# Altium integrated library Actel IGLOO.IntLib: 429 symbols (part 39 of 47)
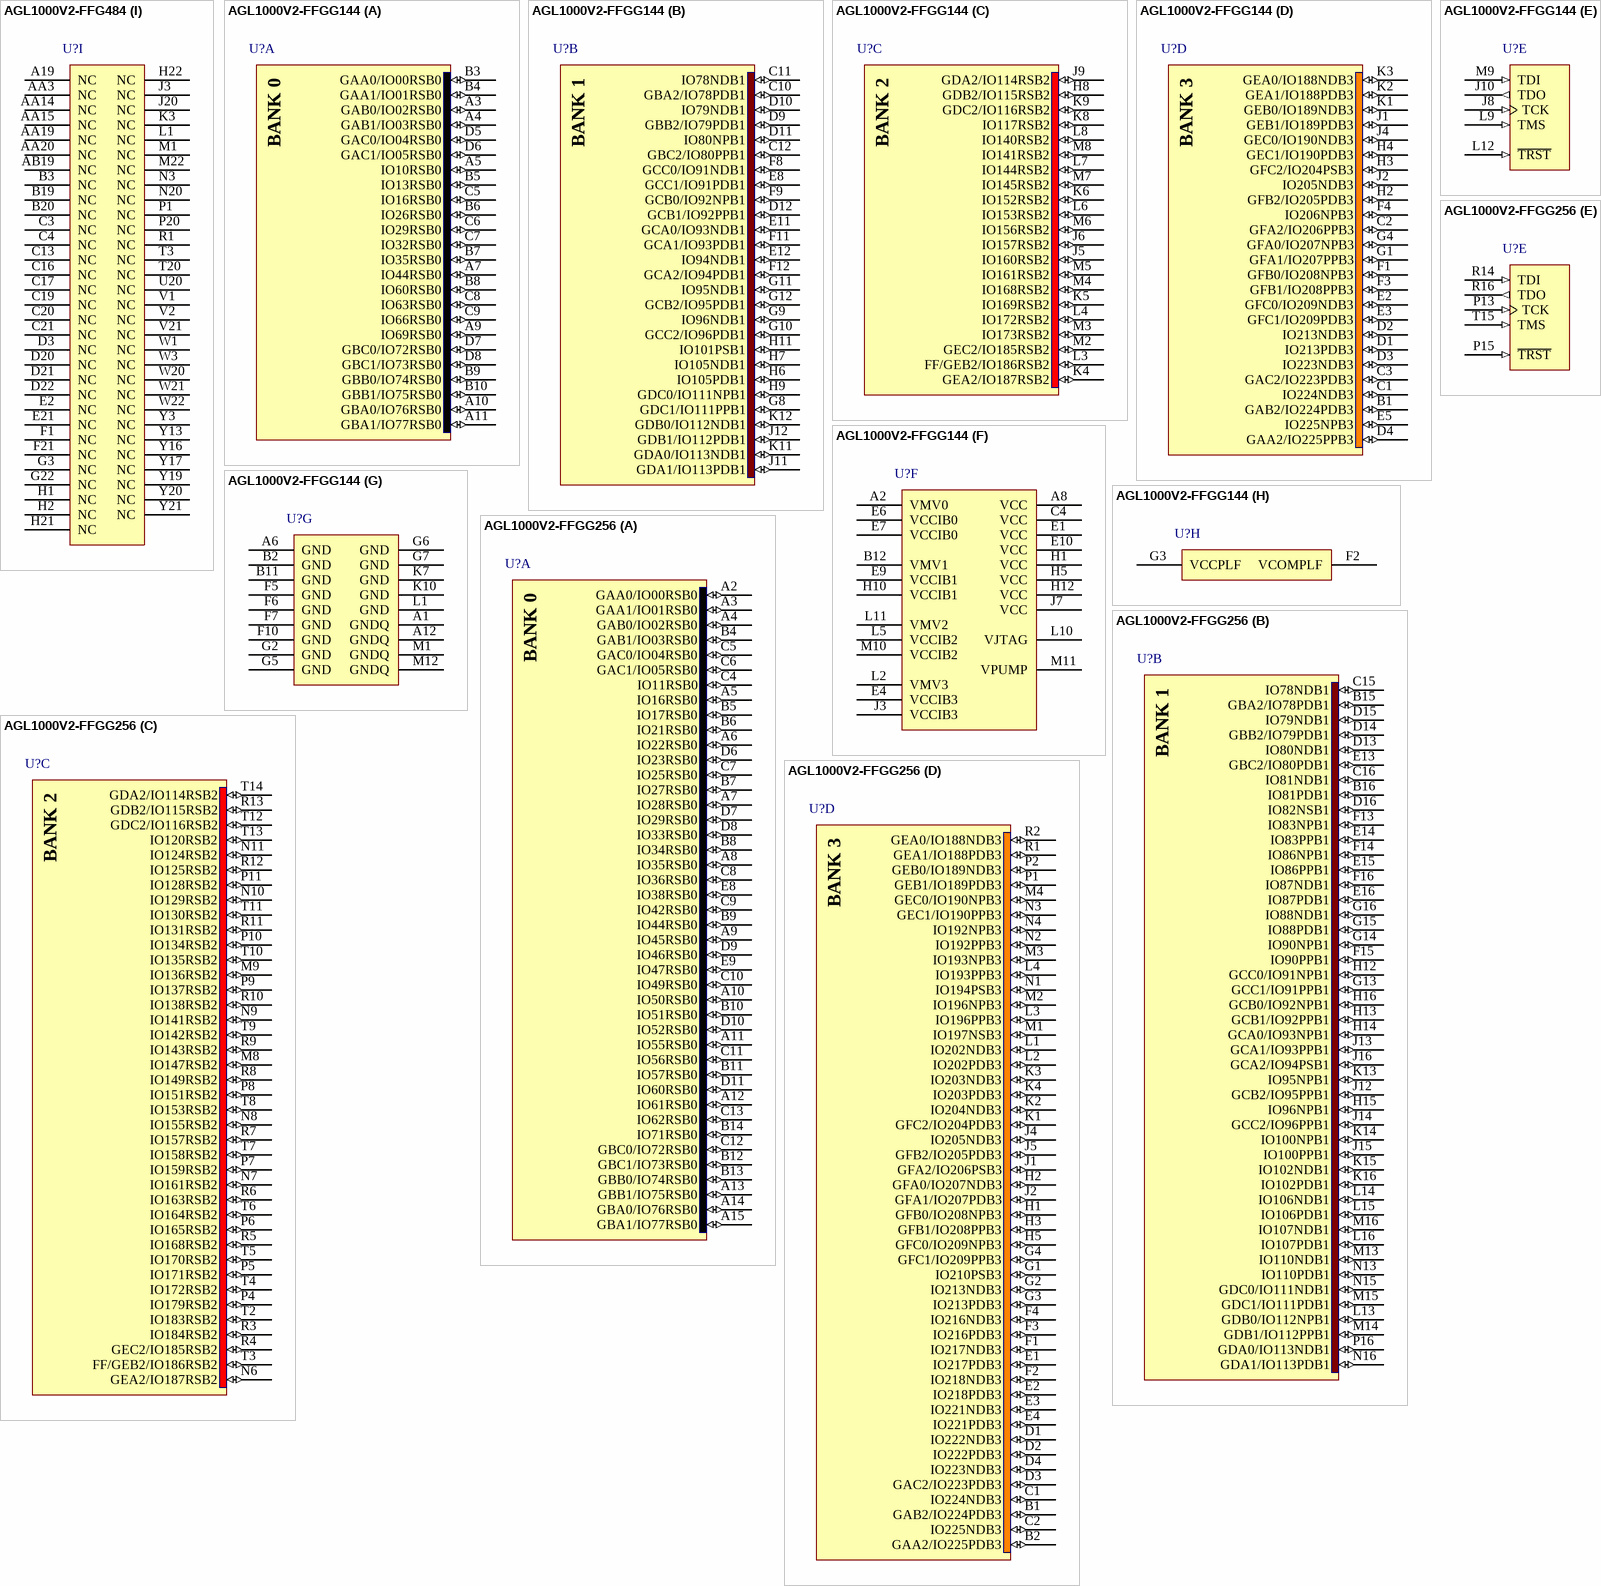
[diagram p278: symbols AGL1000V2-FFG484 to AGL1000V2-FFGG256]

## AGL1000V2-FFG484
designator U?
IGLOO Low-Power Flash 1.2/1.5V FPGA with Flash*Freeze, 300 User IOs, 1M System Gates, 144Kbits RAM, 1Kbit Flash ROM, 1 PLL, 484-Pin FBGA, F Speed Grade, Commercial Grade; ComponentAvailability: F speed grade removed in ver1.5, Apr-2009 datasheet.; Published: 14-Mar-2008; DatasheetVersion: v1.2, Feb-2008; PackageVersion: ver11.2, Nov-2009; PackageReference: FG484; Publisher: Altium Limited; PackageDescription: 484-Ball Fine Pitch Plastic Ball Grid Array (FG484) - Fully Populated; Code_JEDEC: MS-034-AAJ-1; Code_IPC: BGA100P22X22-484; ComponentLink1Description: IGLOO Datasheet; ComponentLink1URL: http://www.actel.com/documents/IGLOO_DS.pdf; ComponentLink2Description: Package Mechanical Drawings; ComponentLink2URL: http://www.actel.com/documents/PckgMechDrwngs.pdf; ComponentLink3Description: IGLOO Documents; ComponentLink3URL: http://www.actel.com/products/igloo/docs.aspx; ComponentLink4Description: Actel.com Home; ComponentLink4URL: http://www.actel.com/
footprint FG484 (BGA, 484-Leads, Body 23x23mm, Pitch 1mm)
signal-integrity model AGL1000-FG484 (IGLOO)
part A pins: A4 IO07RSB0 (io), A5 IO09RSB0 (io), A6 IO13RSB0 (io), A7 IO18RSB0 (io), A8 IO20RSB0 (io), A9 IO26RSB0 (io), A10 IO32RSB0 (io), A11 IO40RSB0 (io), A12 IO41RSB0 (io), A13 IO53RSB0 (io), A14 IO59RSB0 (io), A15 IO64RSB0 (io), A16 IO65RSB0 (io), A17 IO67RSB0 (io), A18 IO69RSB0 (io), B4 IO06RSB0 (io), B5 IO08RSB0 (io), B6 IO12RSB0 (io), B7 IO15RSB0 (io), B8 IO19RSB0 (io), B9 IO24RSB0 (io), B10 IO31RSB0 (io), B11 IO39RSB0 (io), B12 IO48RSB0 (io), B13 IO54RSB0 (io), B14 IO58RSB0 (io), B15 IO63RSB0 (io), B16 IO66RSB0 (io), B17 IO68RSB0 (io), B18 IO70RSB0 (io), C6 IO10RSB0 (io), C7 IO14RSB0 (io), C10 IO30RSB0 (io), C11 IO37RSB0 (io), C12 IO43RSB0 (io), D5 GAA0/IO00RSB0 (io), D6 GAA1/IO01RSB0 (io), D7 GAB0/IO02RSB0 (io), D8 IO16RSB0 (io), D9 IO22RSB0 (io), D10 IO28RSB0 (io), D11 IO35RSB0 (io), D12 IO45RSB0 (io), D13 IO50RSB0 (io), D14 IO55RSB0 (io), D15 IO61RSB0 (io), D16 GBB1/IO75RSB0 (io), D17 GBA0/IO76RSB0 (io), D18 GBA1/IO77RSB0 (io), E7 GAB1/IO03RSB0 (io), E8 IO17RSB0 (io), E9 IO21RSB0 (io), E10 IO27RSB0 (io), E11 IO34RSB0 (io), E12 IO44RSB0 (io), E13 IO51RSB0 (io), E14 IO57RSB0 (io), E15 GBC1/IO73RSB0 (io), E16 GBB0/IO74RSB0 (io), E17 IO71RSB0 (io), F7 IO11RSB0 (io), F8 GAC0/IO04RSB0 (io), F9 GAC1/IO05RSB0 (io), F10 IO25RSB0 (io), F11 IO36RSB0 (io), F12 IO42RSB0 (io), F13 IO49RSB0 (io), F14 IO56RSB0 (io), F15 GBC0/IO72RSB0 (io), F16 IO62RSB0 (io), G9 IO23RSB0 (io), G10 IO29RSB0 (io), G11 IO33RSB0 (io), G12 IO46RSB0 (io), G13 IO52RSB0 (io), G14 IO60RSB0 (io), H11 IO38RSB0 (io), H12 IO47RSB0 (io)
part B pins: E18 GBA2/IO78PDB1 (io), E19 IO81PDB1 (io), E22 IO84PDB1 (io), F18 IO78NDB1 (io), F19 IO81NDB1 (io), F20 IO82PPB1 (io), F22 IO84NDB1 (io), G16 IO80NDB1 (io), G17 GBB2/IO79PDB1 (io), G18 IO79NDB1 (io), G19 IO82NPB1 (io), G20 IO85PDB1 (io), G21 IO85NDB1 (io), H16 GBC2/IO80PDB1 (io), H17 IO83PPB1 (io), H18 IO86PPB1 (io), H19 IO87PDB1 (io), J16 IO83NPB1 (io), J17 IO86NPB1 (io), J18 IO90PPB1 (io), J19 IO87NDB1 (io), J21 IO89PDB1 (io), J22 IO89NDB1 (io), K16 GCC1/IO91PPB1 (io), K17 IO90NPB1 (io), K18 IO88PDB1 (io), K19 IO88NDB1 (io), K20 IO94NPB1 (io), K21 IO98NDB1 (io), K22 IO98PDB1 (io), L15 GCC0/IO91NPB1 (io), L16 GCB1/IO92PPB1 (io), L17 GCA0/IO93NPB1 (io), L18 IO96NPB1 (io), L19 GCB0/IO92NPB1 (io), L20 IO97PDB1 (io), L21 IO97NDB1 (io), L22 IO99NPB1 (io), M15 GCB2/IO95PPB1 (io), M16 GCA1/IO93PPB1 (io), M17 GCC2/IO96PPB1 (io), M18 IO100PPB1 (io), M19 GCA2/IO94PPB1 (io), M20 IO101PPB1 (io), M21 IO99PPB1 (io), N16 IO95NPB1 (io), N17 IO100NPB1 (io), N18 IO102NDB1 (io), N19 IO102PDB1 (io), N21 IO101NPB1 (io), N22 IO103PDB1 (io), P16 GDB0/IO112NPB1 (io), P17 IO106NDB1 (io), P18 IO106PDB1 (io), P19 IO107PDB1 (io), P21 IO104PDB1 (io), P22 IO103NDB1 (io), R16 IO110NDB1 (io), R17 GDB1/IO112PPB1 (io), R18 GDC1/IO111PDB1 (io), R19 IO107NDB1 (io), R21 IO104NDB1 (io), R22 IO105PDB1 (io), T16 IO110PDB1 (io), T18 GDC0/IO111NDB1 (io), T19 GDA1/IO113PDB1 (io), T21 IO108PDB1 (io), T22 IO105NDB1 (io), U19 GDA0/IO113NDB1 (io), U21 IO108NDB1 (io), U22 IO109PDB1 (io), V22 IO109NDB1 (io)
part C pins: AA4 IO181RSB2 (io), AA5 IO178RSB2 (io), AA6 IO175RSB2 (io), AA7 IO169RSB2 (io), AA8 IO166RSB2 (io), AA9 IO160RSB2 (io), AA10 IO152RSB2 (io), AA11 IO146RSB2 (io), AA12 IO139RSB2 (io), AA13 IO133RSB2 (io), AA16 IO122RSB2 (io), AA17 IO119RSB2 (io), AA18 IO117RSB2 (io), AB4 IO180RSB2 (io), AB5 IO176RSB2 (io), AB6 IO173RSB2 (io), AB7 IO167RSB2 (io), AB8 IO162RSB2 (io), AB9 IO156RSB2 (io), AB10 IO150RSB2 (io), AB11 IO145RSB2 (io), AB12 IO144RSB2 (io), AB13 IO132RSB2 (io), AB14 IO127RSB2 (io), AB15 IO126RSB2 (io), AB16 IO123RSB2 (io), AB17 IO121RSB2 (io), AB18 IO118RSB2 (io), R11 IO147RSB2 (io), R12 IO136RSB2 (io), T9 GEA2/IO187RSB2 (io), T10 IO161RSB2 (io), T11 IO155RSB2 (io), T12 IO141RSB2 (io), T13 IO129RSB2 (io), T14 IO124RSB2 (io), U7 IO179RSB2 (io), U8 IO171RSB2 (io), U9 IO165RSB2 (io), U10 IO159RSB2 (io), U11 IO151RSB2 (io), U12 IO137RSB2 (io), U13 IO134RSB2 (io), U14 IO128RSB2 (io), V6 IO184RSB2 (io), V7 GEC2/IO185RSB2 (io), V8 IO168RSB2 (io), V9 IO163RSB2 (io), V10 IO157RSB2 (io), V11 IO149RSB2 (io), V12 IO143RSB2 (io), V13 IO138RSB2 (io), V14 IO131RSB2 (io), V15 IO125RSB2 (io), V16 GDB2/IO115RSB2 (io), W5 IO183RSB2 (io), W6 FF/GEB2/IO186RSB2 (io), W7 IO172RSB2 (io), W8 IO170RSB2 (io), W9 IO164RSB2 (io), W10 IO158RSB2 (io), W11 IO153RSB2 (io), W12 IO142RSB2 (io), W13 IO135RSB2 (io), W14 IO130RSB2 (io), W15 GDC2/IO116RSB2 (io), W16 IO120RSB2 (io), W17 GDA2/IO114RSB2 (io), Y4 IO182RSB2 (io), Y6 IO177RSB2 (io), Y7 IO174RSB2 (io), Y10 IO154RSB2 (io), Y11 IO148RSB2 (io), Y12 IO140RSB2 (io)
part D pins: C2 IO220PDB3 (io), D1 IO219PDB3 (io), D2 IO220NDB3 (io), E1 IO219NDB3 (io), E4 GAB2/IO224PDB3 (io), E5 GAA2/IO225PDB3 (io), F2 IO215PDB3 (io), F3 IO215NDB3 (io), F4 IO224NDB3 (io), F5 IO225NDB3 (io), G1 IO214NDB3 (io), G2 IO214PDB3 (io), G4 IO222NDB3 (io), G5 IO222PDB3 (io), G6 GAC2/IO223PDB3 (io), G7 IO223NDB3 (io), H4 IO217PDB3 (io), H5 IO218PDB3 (io), H6 IO221NDB3 (io), H7 IO221PDB3 (io), J1 IO212NDB3 (io), J2 IO212PDB3 (io), J4 IO217NDB3 (io), J5 IO218NDB3 (io), J6 IO216PDB3 (io), J7 IO216NDB3 (io), K1 IO211PDB3 (io), K2 IO211NDB3 (io), K4 IO210PPB3 (io), K5 IO213NDB3 (io), K6 IO213PDB3 (io), K7 GFC1/IO209PPB3 (io), L2 IO200PDB3 (io), L3 IO210NPB3 (io), L4 GFB0/IO208NPB3 (io), L5 GFA0/IO207NDB3 (io), L6 GFB1/IO208PPB3 (io), L8 GFC0/IO209NPB3 (io), M2 IO200NDB3 (io), M3 IO206NDB3 (io), M4 GFA2/IO206PDB3 (io), M5 GFA1/IO207PDB3 (io), M7 IO205NDB3 (io), M8 GFB2/IO205PDB3 (io), N1 IO201NDB3 (io), N2 IO201PDB3 (io), N4 GFC2/IO204PDB3 (io), N5 IO204NDB3 (io), N6 IO203NDB3 (io), N7 IO203PDB3 (io), P2 IO199PDB3 (io), P3 IO199NDB3 (io), P4 IO202NDB3 (io), P5 IO202PDB3 (io), P6 IO196PPB3 (io), P7 IO193PPB3 (io), R2 IO197PPB3 (io), R4 IO197NPB3 (io), R5 IO196NPB3 (io), R6 IO193NPB3 (io), R7 GEC0/IO190NPB3 (io), T1 IO198PDB3 (io), T2 IO198NDB3 (io), T4 IO194PPB3 (io), T5 IO192PPB3 (io), T6 GEC1/IO190PPB3 (io), T7 IO192NPB3 (io), U1 IO195PDB3 (io), U2 IO195NDB3 (io), U3 IO194NPB3 (io), U4 GEB1/IO189PDB3 (io), U5 GEB0/IO189NDB3 (io), V4 GEA1/IO188PDB3 (io), V5 GEA0/IO188NDB3 (io), W2 IO191PDB3 (io), Y2 IO191NDB3 (io)
part E pins: U16 TCK (in), U18 ~{TRST} (in), V17 TDI (in), V19 TDO (out), W18 TMS (in)
part F pins: A3 VCCIB0 (power), A20 VCCIB0 (power), AA2 VCCIB3 (power), AA21 VCCIB1 (power), AB3 VCCIB2 (power), AB20 VCCIB2 (power), B2 VCCIB3 (power), B21 VCCIB1 (power), C1 VCCIB3 (power), C8 VCC (power), C9 VCC (power), C14 VCC (power), C15 VCC (power), C22 VCCIB1 (power), F6 VMV3 (power), F17 VMV0 (power), H3 VCC (power), H8 VMV0 (power), H9 VCCIB0 (power), H10 VCCIB0 (power), H13 VCCIB0 (power), H14 VCCIB0 (power), H15 VMV1 (power), H20 VCC (power), J8 VCCIB3 (power), J10 VCC (power), J11 VCC (power), J12 VCC (power), J13 VCC (power), J15 VCCIB1 (power), K8 VCCIB3 (power), K9 VCC (power), K14 VCC (power), K15 VCCIB1 (power), L9 VCC (power), L14 VCC (power), M9 VCC (power), M14 VCC (power), N8 VCCIB3 (power), N9 VCC (power), N14 VCC (power), N15 VCCIB1 (power), P8 VCCIB3 (power), P10 VCC (power), P11 VCC (power), P12 VCC (power), P13 VCC (power), P15 VCCIB1 (power), R3 VCC (power), R8 VMV3 (power), R9 VCCIB2 (power), R10 VCCIB2 (power), R13 VCCIB2 (power), R14 VCCIB2 (power), R15 VMV2 (power), R20 VCC (power), T17 VJTAG (power), U6 VMV2 (power), U15 VMV1 (power), U17 VPUMP (power), Y1 VCCIB3 (power), Y8 VCC (power), Y9 VCC (power), Y14 VCC (power), Y15 VCC (power), Y22 VCCIB1 (power)
part G pins: A1 GND (power), A2 GND (power), A21 GND (power), A22 GND (power), AA1 GND (power), AA22 GND (power), AB1 GND (power), AB2 GND (power), AB21 GND (power), AB22 GND (power), B1 GND (power), B22 GND (power), C5 GND (power), C18 GND (power), D4 GND (power), D19 GND (power), E3 GND (power), E6 GNDQ (power), E20 GND (power), G8 GNDQ (power), G15 GNDQ (power), J9 GND (power), J14 GND (power), K10 GND (power), K11 GND (power), K12 GND (power), K13 GND (power), L10 GND (power), L11 GND (power), L12 GND (power), L13 GND (power), M10 GND (power), M11 GND (power), M12 GND (power), M13 GND (power), N10 GND (power), N11 GND (power), N12 GND (power), N13 GND (power), P9 GND (power), P14 GND (power), T8 GNDQ (power), T15 GNDQ (power), V3 GND (power), V18 GNDQ (power), V20 GND (power), W4 GND (power), W19 GND (power), Y5 GND (power), Y18 GND (power)
part H pins: L7 VCOMPLF (power), M6 VCCPLF (power)
part I pins: A19 NC, AA3 NC, AA14 NC, AA15 NC, AA19 NC, AA20 NC, AB19 NC, B3 NC, B19 NC, B20 NC, C3 NC, C4 NC, C13 NC, C16 NC, C17 NC, C19 NC, C20 NC, C21 NC, D3 NC, D20 NC, D21 NC, D22 NC, E2 NC, E21 NC, F1 NC, F21 NC, G3 NC, G22 NC, H1 NC, H2 NC, H21 NC, H22 NC, J3 NC, J20 NC, K3 NC, L1 NC, M1 NC, M22 NC, N3 NC, N20 NC, P1 NC, P20 NC, R1 NC, T3 NC, T20 NC, U20 NC, V1 NC, V2 NC, V21 NC, W1 NC, W3 NC, W20 NC, W21 NC, W22 NC, Y3 NC, Y13 NC, Y16 NC, Y17 NC, Y19 NC, Y20 NC, Y21 NC
part A text: BANK 0
part B text: BANK 1
part C text: BANK 2
part D text: BANK 3

## AGL1000V2-FFGG144
designator U?
IGLOO Low-Power Flash 1.2/1.5V FPGA with Flash*Freeze, 97 User IOs, 1M System Gates, 144Kbits RAM, 1Kbit Flash ROM, 1 PLL, 144-Pin FBGA, F Speed Grade, Commercial Grade, Pb-Free; ComponentAvailability: F speed grade removed in ver1.5, Apr-2009 datasheet.; Published: 14-Mar-2008; DatasheetVersion: v1.2, Feb-2008; PackageVersion: ver11.2, Nov-2009; PackageReference: FG144; Publisher: Altium Limited; PackageDescription: 144-Ball Fine Pitch Plastic Ball Grid Array (FG144); Code_JEDEC: MO-192-DAD-1; ComponentLink1Description: IGLOO Datasheet; ComponentLink1URL: http://www.actel.com/documents/IGLOO_DS.pdf; ComponentLink2Description: Package Mechanical Drawings; ComponentLink2URL: http://www.actel.com/documents/PckgMechDrwngs.pdf; ComponentLink3Description: IGLOO Documents; ComponentLink3URL: http://www.actel.com/products/igloo/docs.aspx; ComponentLink4Description: Actel.com Home; ComponentLink4URL: http://www.actel.com/
footprint FG144 (BGA, 144-Leads, Body 13x13mm, Pitch 1mm)
signal-integrity model AGL1000-FG144 (IGLOO)
part A pins: A3 GAB0/IO02RSB0 (io), A4 GAB1/IO03RSB0 (io), A5 IO10RSB0 (io), A7 IO44RSB0 (io), A9 IO69RSB0 (io), A10 GBA0/IO76RSB0 (io), A11 GBA1/IO77RSB0 (io), B3 GAA0/IO00RSB0 (io), B4 GAA1/IO01RSB0 (io), B5 IO13RSB0 (io), B6 IO26RSB0 (io), B7 IO35RSB0 (io), B8 IO60RSB0 (io), B9 GBB0/IO74RSB0 (io), B10 GBB1/IO75RSB0 (io), C5 IO16RSB0 (io), C6 IO29RSB0 (io), C7 IO32RSB0 (io), C8 IO63RSB0 (io), C9 IO66RSB0 (io), D5 GAC0/IO04RSB0 (io), D6 GAC1/IO05RSB0 (io), D7 GBC0/IO72RSB0 (io), D8 GBC1/IO73RSB0 (io)
part B pins: C10 GBA2/IO78PDB1 (io), C11 IO78NDB1 (io), C12 GBC2/IO80PPB1 (io), D9 GBB2/IO79PDB1 (io), D10 IO79NDB1 (io), D11 IO80NPB1 (io), D12 GCB1/IO92PPB1 (io), E8 GCC1/IO91PDB1 (io), E11 GCA0/IO93NDB1 (io), E12 IO94NDB1 (io), F8 GCC0/IO91NDB1 (io), F9 GCB0/IO92NPB1 (io), F11 GCA1/IO93PDB1 (io), F12 GCA2/IO94PDB1 (io), G8 GDC1/IO111PPB1 (io), G9 IO96NDB1 (io), G10 GCC2/IO96PDB1 (io), G11 IO95NDB1 (io), G12 GCB2/IO95PDB1 (io), H6 IO105PDB1 (io), H7 IO105NDB1 (io), H9 GDC0/IO111NPB1 (io), H11 IO101PSB1 (io), J11 GDA1/IO113PDB1 (io), J12 GDB1/IO112PDB1 (io), K11 GDA0/IO113NDB1 (io), K12 GDB0/IO112NDB1 (io)
part C pins: H8 GDB2/IO115RSB2 (io), J5 IO160RSB2 (io), J6 IO157RSB2 (io), J9 GDA2/IO114RSB2 (io), K4 GEA2/IO187RSB2 (io), K5 IO169RSB2 (io), K6 IO152RSB2 (io), K8 IO117RSB2 (io), K9 GDC2/IO116RSB2 (io), L3 FF/GEB2/IO186RSB2 (io), L4 IO172RSB2 (io), L6 IO153RSB2 (io), L7 IO144RSB2 (io), L8 IO140RSB2 (io), M2 GEC2/IO185RSB2 (io), M3 IO173RSB2 (io), M4 IO168RSB2 (io), M5 IO161RSB2 (io), M6 IO156RSB2 (io), M7 IO145RSB2 (io), M8 IO141RSB2 (io)
part D pins: B1 GAB2/IO224PDB3 (io), C1 IO224NDB3 (io), C2 GFA2/IO206PPB3 (io), C3 GAC2/IO223PDB3 (io), D1 IO213PDB3 (io), D2 IO213NDB3 (io), D3 IO223NDB3 (io), D4 GAA2/IO225PPB3 (io), E2 GFC0/IO209NDB3 (io), E3 GFC1/IO209PDB3 (io), E5 IO225NPB3 (io), F1 GFB0/IO208NPB3 (io), F3 GFB1/IO208PPB3 (io), F4 IO206NPB3 (io), G1 GFA1/IO207PPB3 (io), G4 GFA0/IO207NPB3 (io), H2 GFB2/IO205PDB3 (io), H3 GFC2/IO204PSB3 (io), H4 GEC1/IO190PDB3 (io), J1 GEB1/IO189PDB3 (io), J2 IO205NDB3 (io), J4 GEC0/IO190NDB3 (io), K1 GEB0/IO189NDB3 (io), K2 GEA1/IO188PDB3 (io), K3 GEA0/IO188NDB3 (io)
part E pins: J8 TCK (in), J10 TDO (out), L9 TMS (in), L12 ~{TRST} (in), M9 TDI (in)
part F pins: A2 VMV0 (power), A8 VCC (power), B12 VMV1 (power), C4 VCC (power), E1 VCC (power), E4 VCCIB3 (power), E6 VCCIB0 (power), E7 VCCIB0 (power), E9 VCCIB1 (power), E10 VCC (power), H1 VCC (power), H5 VCC (power), H10 VCCIB1 (power), H12 VCC (power), J3 VCCIB3 (power), J7 VCC (power), L2 VMV3 (power), L5 VCCIB2 (power), L10 VJTAG (power), L11 VMV2 (power), M10 VCCIB2 (power), M11 VPUMP (power)
part G pins: A1 GNDQ (power), A6 GND (power), A12 GNDQ (power), B2 GND (power), B11 GND (power), F5 GND (power), F6 GND (power), F7 GND (power), F10 GND (power), G2 GND (power), G5 GND (power), G6 GND (power), G7 GND (power), K7 GND (power), K10 GND (power), L1 GND (power), M1 GNDQ (power), M12 GNDQ (power)
part H pins: F2 VCOMPLF (power), G3 VCCPLF (power)
part A text: BANK 0
part B text: BANK 1
part C text: BANK 2
part D text: BANK 3

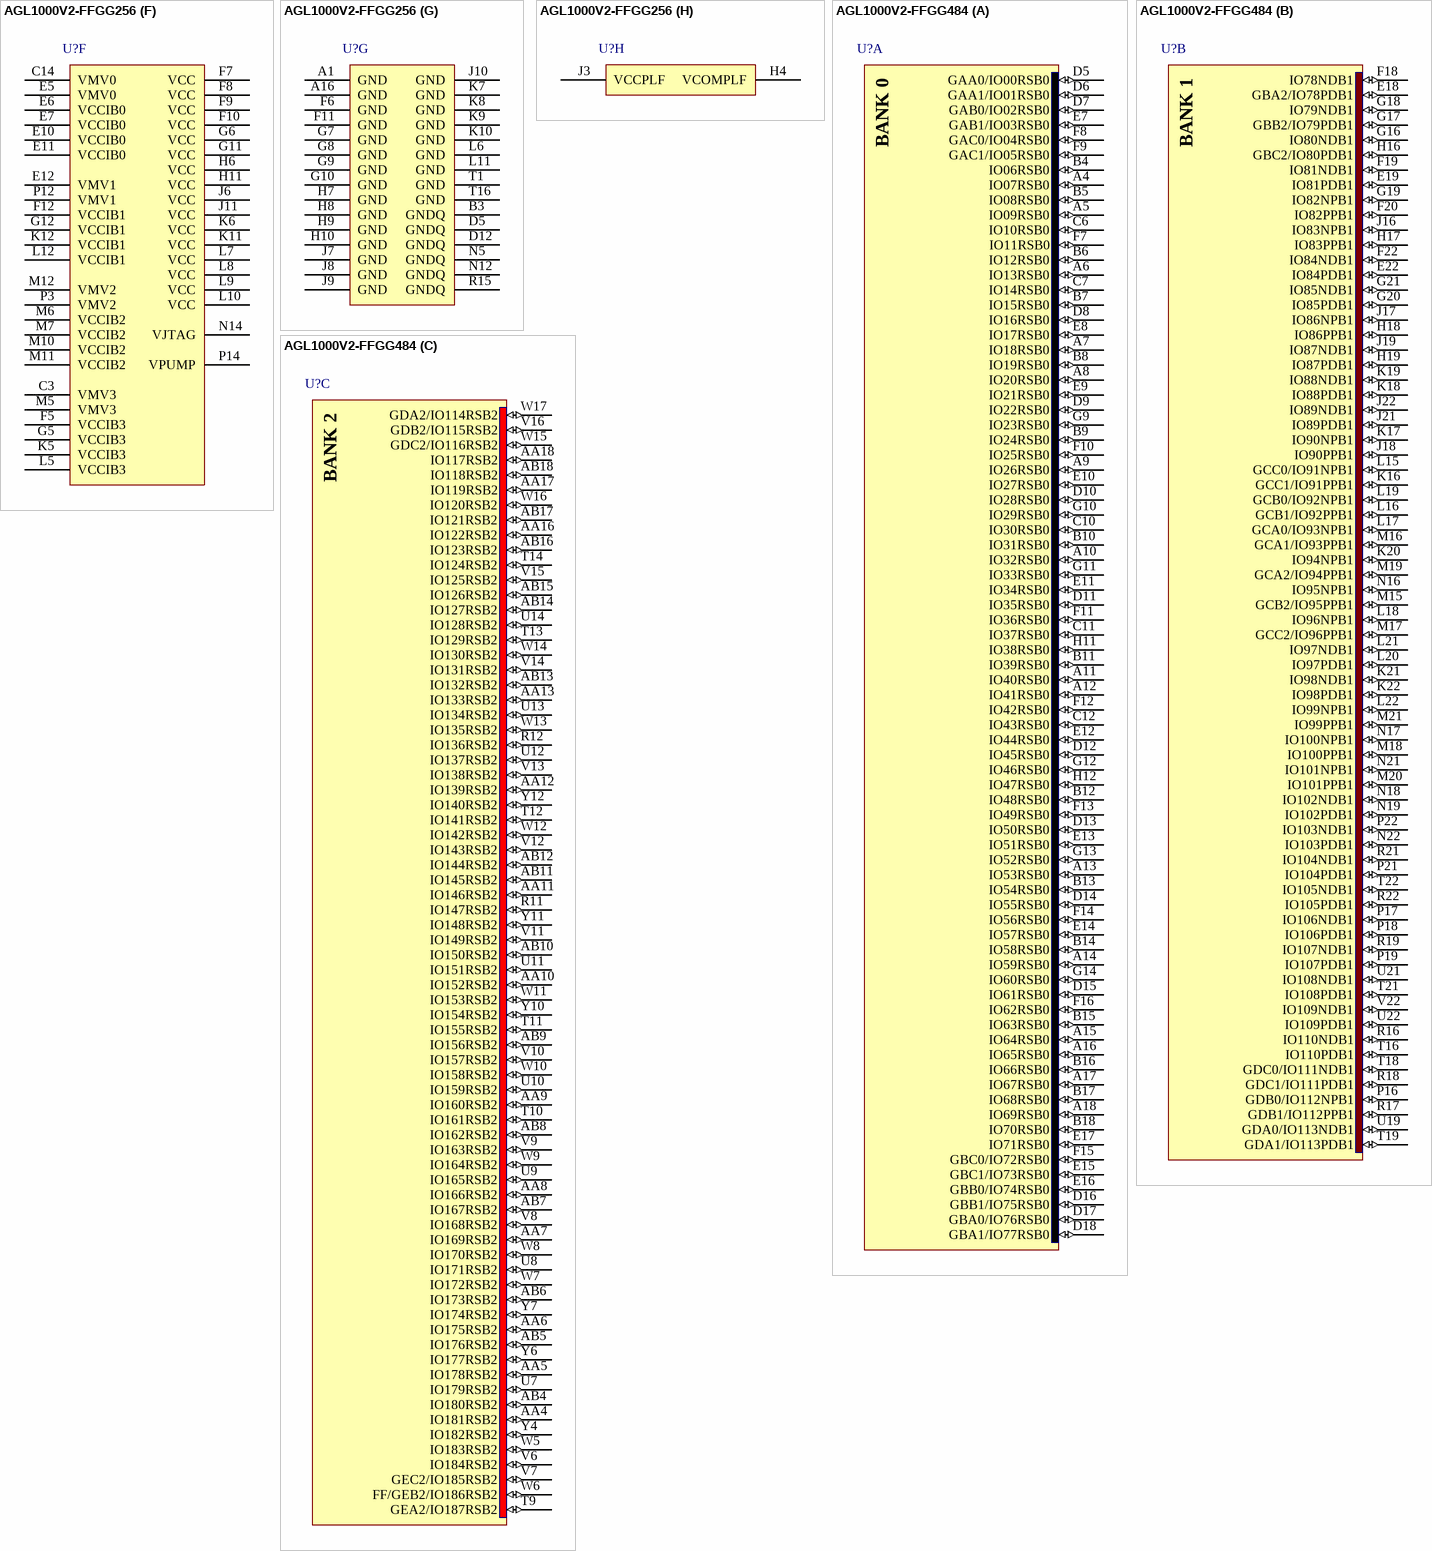
[diagram p137: symbols AGL1000V2-FFGG256 to AGL1000V2-FFGG484]

## AGL1000V2-FFGG256
designator U?
IGLOO Low-Power Flash 1.2/1.5V FPGA with Flash*Freeze, 177 User IOs, 1M System Gates, 144Kbits RAM, 1Kbit Flash ROM, 1 PLL, 256-Pin FBGA, F Speed Grade, Commercial Grade, Pb-Free; ComponentAvailability: F speed grade removed in ver1.5, Apr-2009 datasheet.; Published: 14-Mar-2008; DatasheetVersion: v1.2, Feb-2008; PackageVersion: ver11.2, Nov-2009; PackageReference: FG256; Publisher: Altium Limited; PackageDescription: 256-Ball Fine Pitch Plastic Ball Grid Array 1.00 mm Pitch (FG256); Code_JEDEC: MO-192-DAF-1; ComponentLink1Description: IGLOO Datasheet; ComponentLink1URL: http://www.actel.com/documents/IGLOO_DS.pdf; ComponentLink2Description: Package Mechanical Drawings; ComponentLink2URL: http://www.actel.com/documents/PckgMechDrwngs.pdf; ComponentLink3Description: IGLOO Documents; ComponentLink3URL: http://www.actel.com/products/igloo/docs.aspx; ComponentLink4Description: Actel.com Home; ComponentLink4URL: http://www.actel.com/
footprint FG256 (BGA, 256-Leads, Body 17x17mm, Pitch 1mm)
signal-integrity model AGL1000-FG256 (IGLOO)
part A pins: A2 GAA0/IO00RSB0 (io), A3 GAA1/IO01RSB0 (io), A4 GAB0/IO02RSB0 (io), A5 IO16RSB0 (io), A6 IO22RSB0 (io), A7 IO28RSB0 (io), A8 IO35RSB0 (io), A9 IO45RSB0 (io), A10 IO50RSB0 (io), A11 IO55RSB0 (io), A12 IO61RSB0 (io), A13 GBB1/IO75RSB0 (io), A14 GBA0/IO76RSB0 (io), A15 GBA1/IO77RSB0 (io), B4 GAB1/IO03RSB0 (io), B5 IO17RSB0 (io), B6 IO21RSB0 (io), B7 IO27RSB0 (io), B8 IO34RSB0 (io), B9 IO44RSB0 (io), B10 IO51RSB0 (io), B11 IO57RSB0 (io), B12 GBC1/IO73RSB0 (io), B13 GBB0/IO74RSB0 (io), B14 IO71RSB0 (io), C4 IO11RSB0 (io), C5 GAC0/IO04RSB0 (io), C6 GAC1/IO05RSB0 (io), C7 IO25RSB0 (io), C8 IO36RSB0 (io), C9 IO42RSB0 (io), C10 IO49RSB0 (io), C11 IO56RSB0 (io), C12 GBC0/IO72RSB0 (io), C13 IO62RSB0 (io), D6 IO23RSB0 (io), D7 IO29RSB0 (io), D8 IO33RSB0 (io), D9 IO46RSB0 (io), D10 IO52RSB0 (io), D11 IO60RSB0 (io), E8 IO38RSB0 (io), E9 IO47RSB0 (io)
part B pins: B15 GBA2/IO78PDB1 (io), B16 IO81PDB1 (io), C15 IO78NDB1 (io), C16 IO81NDB1 (io), D13 IO80NDB1 (io), D14 GBB2/IO79PDB1 (io), D15 IO79NDB1 (io), D16 IO82NSB1 (io), E13 GBC2/IO80PDB1 (io), E14 IO83PPB1 (io), E15 IO86PPB1 (io), E16 IO87PDB1 (io), F13 IO83NPB1 (io), F14 IO86NPB1 (io), F15 IO90PPB1 (io), F16 IO87NDB1 (io), G13 GCC1/IO91PPB1 (io), G14 IO90NPB1 (io), G15 IO88PDB1 (io), G16 IO88NDB1 (io), H12 GCC0/IO91NPB1 (io), H13 GCB1/IO92PPB1 (io), H14 GCA0/IO93NPB1 (io), H15 IO96NPB1 (io), H16 GCB0/IO92NPB1 (io), J12 GCB2/IO95PPB1 (io), J13 GCA1/IO93PPB1 (io), J14 GCC2/IO96PPB1 (io), J15 IO100PPB1 (io), J16 GCA2/IO94PSB1 (io), K13 IO95NPB1 (io), K14 IO100NPB1 (io), K15 IO102NDB1 (io), K16 IO102PDB1 (io), L13 GDB0/IO112NPB1 (io), L14 IO106NDB1 (io), L15 IO106PDB1 (io), L16 IO107PDB1 (io), M13 IO110NDB1 (io), M14 GDB1/IO112PPB1 (io), M15 GDC1/IO111PDB1 (io), M16 IO107NDB1 (io), N13 IO110PDB1 (io), N15 GDC0/IO111NDB1 (io), N16 GDA1/IO113PDB1 (io), P16 GDA0/IO113NDB1 (io)
part C pins: M8 IO147RSB2 (io), M9 IO136RSB2 (io), N6 GEA2/IO187RSB2 (io), N7 IO161RSB2 (io), N8 IO155RSB2 (io), N9 IO141RSB2 (io), N10 IO129RSB2 (io), N11 IO124RSB2 (io), P4 IO179RSB2 (io), P5 IO171RSB2 (io), P6 IO165RSB2 (io), P7 IO159RSB2 (io), P8 IO151RSB2 (io), P9 IO137RSB2 (io), P10 IO134RSB2 (io), P11 IO128RSB2 (io), R3 IO184RSB2 (io), R4 GEC2/IO185RSB2 (io), R5 IO168RSB2 (io), R6 IO163RSB2 (io), R7 IO157RSB2 (io), R8 IO149RSB2 (io), R9 IO143RSB2 (io), R10 IO138RSB2 (io), R11 IO131RSB2 (io), R12 IO125RSB2 (io), R13 GDB2/IO115RSB2 (io), T2 IO183RSB2 (io), T3 FF/GEB2/IO186RSB2 (io), T4 IO172RSB2 (io), T5 IO170RSB2 (io), T6 IO164RSB2 (io), T7 IO158RSB2 (io), T8 IO153RSB2 (io), T9 IO142RSB2 (io), T10 IO135RSB2 (io), T11 IO130RSB2 (io), T12 GDC2/IO116RSB2 (io), T13 IO120RSB2 (io), T14 GDA2/IO114RSB2 (io)
part D pins: B1 GAB2/IO224PDB3 (io), B2 GAA2/IO225PDB3 (io), C1 IO224NDB3 (io), C2 IO225NDB3 (io), D1 IO222NDB3 (io), D2 IO222PDB3 (io), D3 GAC2/IO223PDB3 (io), D4 IO223NDB3 (io), E1 IO217PDB3 (io), E2 IO218PDB3 (io), E3 IO221NDB3 (io), E4 IO221PDB3 (io), F1 IO217NDB3 (io), F2 IO218NDB3 (io), F3 IO216PDB3 (io), F4 IO216NDB3 (io), G1 IO210PSB3 (io), G2 IO213NDB3 (io), G3 IO213PDB3 (io), G4 GFC1/IO209PPB3 (io), H1 GFB0/IO208NPB3 (io), H2 GFA0/IO207NDB3 (io), H3 GFB1/IO208PPB3 (io), H5 GFC0/IO209NPB3 (io), J1 GFA2/IO206PSB3 (io), J2 GFA1/IO207PDB3 (io), J4 IO205NDB3 (io), J5 GFB2/IO205PDB3 (io), K1 GFC2/IO204PDB3 (io), K2 IO204NDB3 (io), K3 IO203NDB3 (io), K4 IO203PDB3 (io), L1 IO202NDB3 (io), L2 IO202PDB3 (io), L3 IO196PPB3 (io), L4 IO193PPB3 (io), M1 IO197NSB3 (io), M2 IO196NPB3 (io), M3 IO193NPB3 (io), M4 GEC0/IO190NPB3 (io), N1 IO194PSB3 (io), N2 IO192PPB3 (io), N3 GEC1/IO190PPB3 (io), N4 IO192NPB3 (io), P1 GEB1/IO189PDB3 (io), P2 GEB0/IO189NDB3 (io), R1 GEA1/IO188PDB3 (io), R2 GEA0/IO188NDB3 (io)
part E pins: P13 TCK (in), P15 ~{TRST} (in), R14 TDI (in), R16 TDO (out), T15 TMS (in)
part F pins: C3 VMV3 (power), C14 VMV0 (power), E5 VMV0 (power), E6 VCCIB0 (power), E7 VCCIB0 (power), E10 VCCIB0 (power), E11 VCCIB0 (power), E12 VMV1 (power), F5 VCCIB3 (power), F7 VCC (power), F8 VCC (power), F9 VCC (power), F10 VCC (power), F12 VCCIB1 (power), G5 VCCIB3 (power), G6 VCC (power), G11 VCC (power), G12 VCCIB1 (power), H6 VCC (power), H11 VCC (power), J6 VCC (power), J11 VCC (power), K5 VCCIB3 (power), K6 VCC (power), K11 VCC (power), K12 VCCIB1 (power), L5 VCCIB3 (power), L7 VCC (power), L8 VCC (power), L9 VCC (power), L10 VCC (power), L12 VCCIB1 (power), M5 VMV3 (power), M6 VCCIB2 (power), M7 VCCIB2 (power), M10 VCCIB2 (power), M11 VCCIB2 (power), M12 VMV2 (power), N14 VJTAG (power), P3 VMV2 (power), P12 VMV1 (power), P14 VPUMP (power)
part G pins: A1 GND (power), A16 GND (power), B3 GNDQ (power), D5 GNDQ (power), D12 GNDQ (power), F6 GND (power), F11 GND (power), G7 GND (power), G8 GND (power), G9 GND (power), G10 GND (power), H7 GND (power), H8 GND (power), H9 GND (power), H10 GND (power), J7 GND (power), J8 GND (power), J9 GND (power), J10 GND (power), K7 GND (power), K8 GND (power), K9 GND (power), K10 GND (power), L6 GND (power), L11 GND (power), N5 GNDQ (power), N12 GNDQ (power), R15 GNDQ (power), T1 GND (power), T16 GND (power)
part H pins: H4 VCOMPLF (power), J3 VCCPLF (power)
part A text: BANK 0
part B text: BANK 1
part C text: BANK 2
part D text: BANK 3

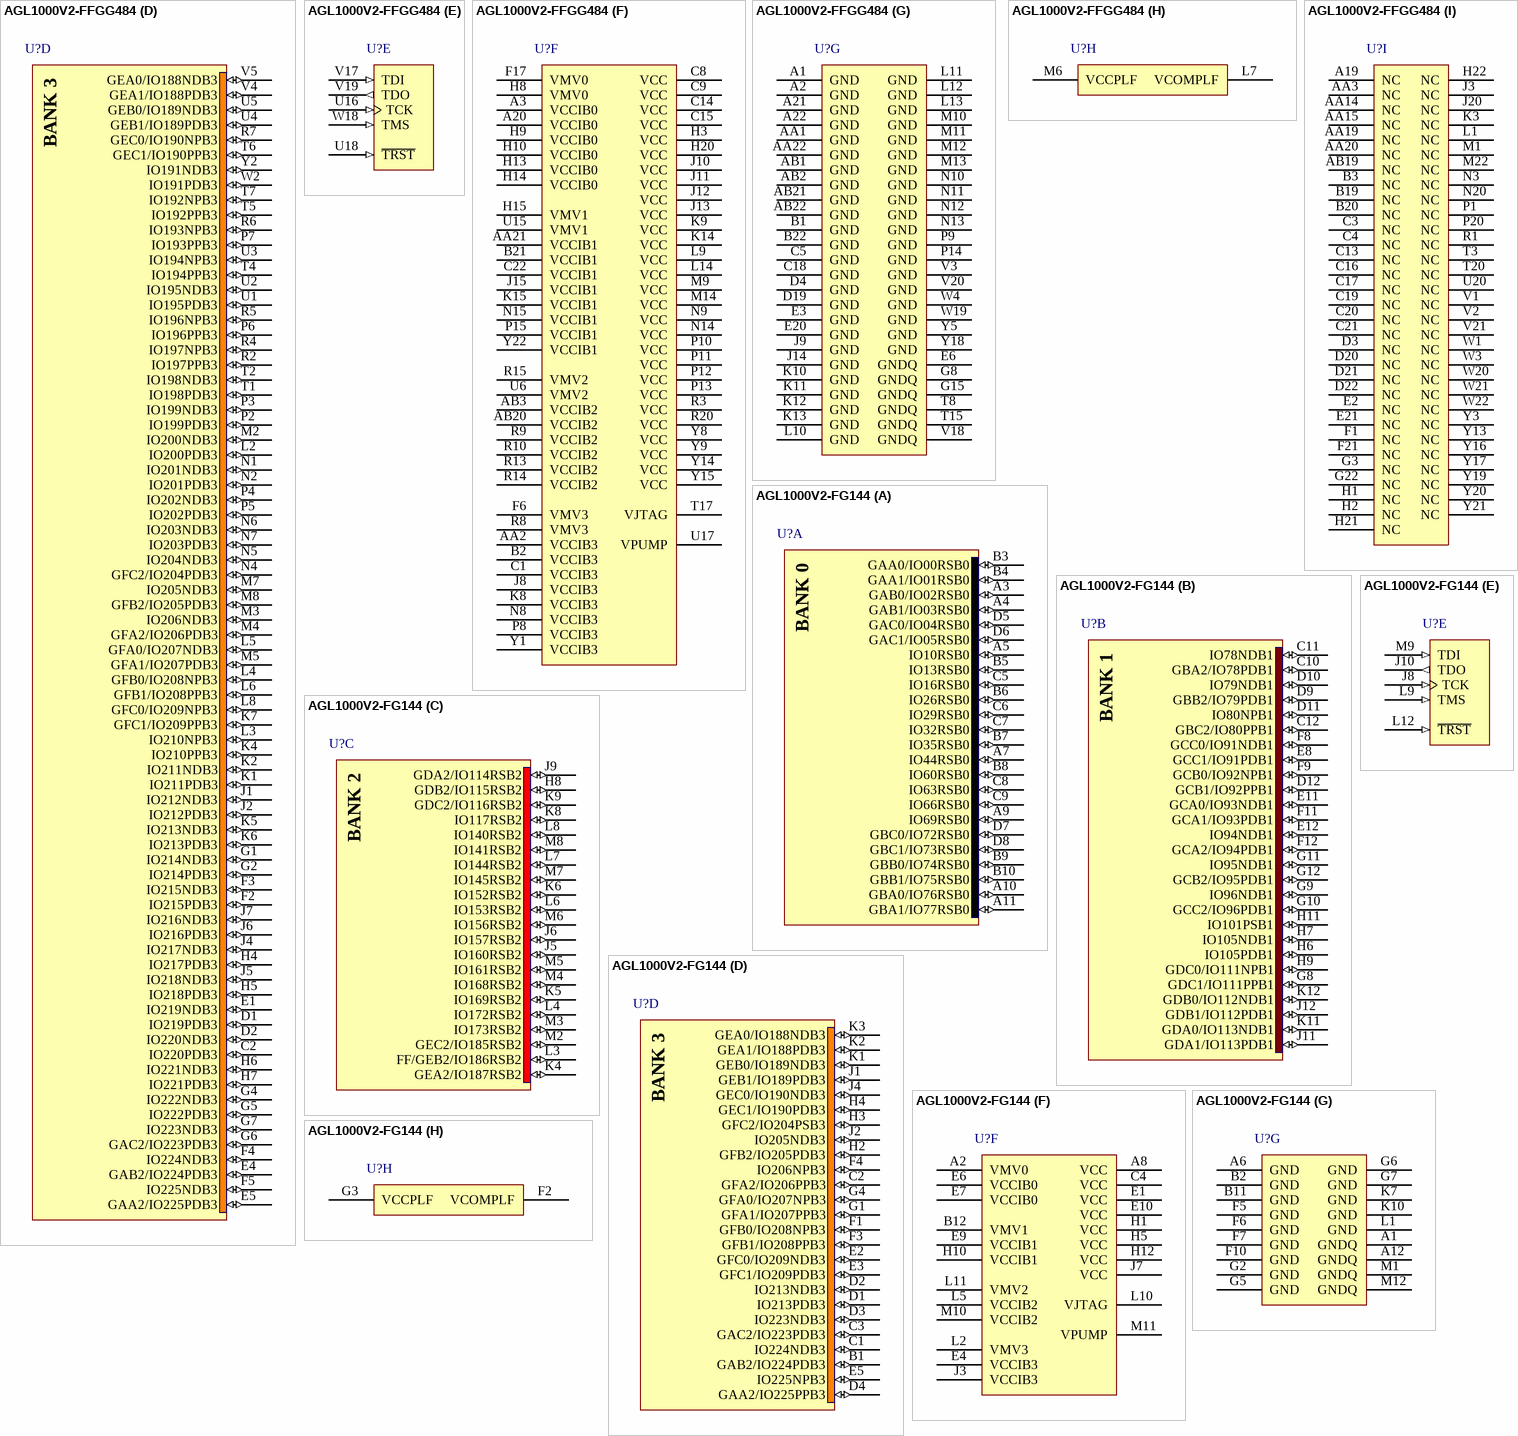
[diagram p138: symbols AGL1000V2-FFGG484 to AGL1000V2-FG144]

## AGL1000V2-FFGG484
designator U?
IGLOO Low-Power Flash 1.2/1.5V FPGA with Flash*Freeze, 300 User IOs, 1M System Gates, 144Kbits RAM, 1Kbit Flash ROM, 1 PLL, 484-Pin FBGA, F Speed Grade, Commercial Grade, Pb-Free; ComponentAvailability: F speed grade removed in ver1.5, Apr-2009 datasheet.; Published: 14-Mar-2008; DatasheetVersion: v1.2, Feb-2008; PackageVersion: ver11.2, Nov-2009; PackageReference: FG484; Publisher: Altium Limited; PackageDescription: 484-Ball Fine Pitch Plastic Ball Grid Array (FG484) - Fully Populated; Code_JEDEC: MS-034-AAJ-1; Code_IPC: BGA100P22X22-484; ComponentLink1Description: IGLOO Datasheet; ComponentLink1URL: http://www.actel.com/documents/IGLOO_DS.pdf; ComponentLink2Description: Package Mechanical Drawings; ComponentLink2URL: http://www.actel.com/documents/PckgMechDrwngs.pdf; ComponentLink3Description: IGLOO Documents; ComponentLink3URL: http://www.actel.com/products/igloo/docs.aspx; ComponentLink4Description: Actel.com Home; ComponentLink4URL: http://www.actel.com/
footprint FG484 (BGA, 484-Leads, Body 23x23mm, Pitch 1mm)
signal-integrity model AGL1000-FG484 (IGLOO)
part A pins: A4 IO07RSB0 (io), A5 IO09RSB0 (io), A6 IO13RSB0 (io), A7 IO18RSB0 (io), A8 IO20RSB0 (io), A9 IO26RSB0 (io), A10 IO32RSB0 (io), A11 IO40RSB0 (io), A12 IO41RSB0 (io), A13 IO53RSB0 (io), A14 IO59RSB0 (io), A15 IO64RSB0 (io), A16 IO65RSB0 (io), A17 IO67RSB0 (io), A18 IO69RSB0 (io), B4 IO06RSB0 (io), B5 IO08RSB0 (io), B6 IO12RSB0 (io), B7 IO15RSB0 (io), B8 IO19RSB0 (io), B9 IO24RSB0 (io), B10 IO31RSB0 (io), B11 IO39RSB0 (io), B12 IO48RSB0 (io), B13 IO54RSB0 (io), B14 IO58RSB0 (io), B15 IO63RSB0 (io), B16 IO66RSB0 (io), B17 IO68RSB0 (io), B18 IO70RSB0 (io), C6 IO10RSB0 (io), C7 IO14RSB0 (io), C10 IO30RSB0 (io), C11 IO37RSB0 (io), C12 IO43RSB0 (io), D5 GAA0/IO00RSB0 (io), D6 GAA1/IO01RSB0 (io), D7 GAB0/IO02RSB0 (io), D8 IO16RSB0 (io), D9 IO22RSB0 (io), D10 IO28RSB0 (io), D11 IO35RSB0 (io), D12 IO45RSB0 (io), D13 IO50RSB0 (io), D14 IO55RSB0 (io), D15 IO61RSB0 (io), D16 GBB1/IO75RSB0 (io), D17 GBA0/IO76RSB0 (io), D18 GBA1/IO77RSB0 (io), E7 GAB1/IO03RSB0 (io), E8 IO17RSB0 (io), E9 IO21RSB0 (io), E10 IO27RSB0 (io), E11 IO34RSB0 (io), E12 IO44RSB0 (io), E13 IO51RSB0 (io), E14 IO57RSB0 (io), E15 GBC1/IO73RSB0 (io), E16 GBB0/IO74RSB0 (io), E17 IO71RSB0 (io), F7 IO11RSB0 (io), F8 GAC0/IO04RSB0 (io), F9 GAC1/IO05RSB0 (io), F10 IO25RSB0 (io), F11 IO36RSB0 (io), F12 IO42RSB0 (io), F13 IO49RSB0 (io), F14 IO56RSB0 (io), F15 GBC0/IO72RSB0 (io), F16 IO62RSB0 (io), G9 IO23RSB0 (io), G10 IO29RSB0 (io), G11 IO33RSB0 (io), G12 IO46RSB0 (io), G13 IO52RSB0 (io), G14 IO60RSB0 (io), H11 IO38RSB0 (io), H12 IO47RSB0 (io)
part B pins: E18 GBA2/IO78PDB1 (io), E19 IO81PDB1 (io), E22 IO84PDB1 (io), F18 IO78NDB1 (io), F19 IO81NDB1 (io), F20 IO82PPB1 (io), F22 IO84NDB1 (io), G16 IO80NDB1 (io), G17 GBB2/IO79PDB1 (io), G18 IO79NDB1 (io), G19 IO82NPB1 (io), G20 IO85PDB1 (io), G21 IO85NDB1 (io), H16 GBC2/IO80PDB1 (io), H17 IO83PPB1 (io), H18 IO86PPB1 (io), H19 IO87PDB1 (io), J16 IO83NPB1 (io), J17 IO86NPB1 (io), J18 IO90PPB1 (io), J19 IO87NDB1 (io), J21 IO89PDB1 (io), J22 IO89NDB1 (io), K16 GCC1/IO91PPB1 (io), K17 IO90NPB1 (io), K18 IO88PDB1 (io), K19 IO88NDB1 (io), K20 IO94NPB1 (io), K21 IO98NDB1 (io), K22 IO98PDB1 (io), L15 GCC0/IO91NPB1 (io), L16 GCB1/IO92PPB1 (io), L17 GCA0/IO93NPB1 (io), L18 IO96NPB1 (io), L19 GCB0/IO92NPB1 (io), L20 IO97PDB1 (io), L21 IO97NDB1 (io), L22 IO99NPB1 (io), M15 GCB2/IO95PPB1 (io), M16 GCA1/IO93PPB1 (io), M17 GCC2/IO96PPB1 (io), M18 IO100PPB1 (io), M19 GCA2/IO94PPB1 (io), M20 IO101PPB1 (io), M21 IO99PPB1 (io), N16 IO95NPB1 (io), N17 IO100NPB1 (io), N18 IO102NDB1 (io), N19 IO102PDB1 (io), N21 IO101NPB1 (io), N22 IO103PDB1 (io), P16 GDB0/IO112NPB1 (io), P17 IO106NDB1 (io), P18 IO106PDB1 (io), P19 IO107PDB1 (io), P21 IO104PDB1 (io), P22 IO103NDB1 (io), R16 IO110NDB1 (io), R17 GDB1/IO112PPB1 (io), R18 GDC1/IO111PDB1 (io), R19 IO107NDB1 (io), R21 IO104NDB1 (io), R22 IO105PDB1 (io), T16 IO110PDB1 (io), T18 GDC0/IO111NDB1 (io), T19 GDA1/IO113PDB1 (io), T21 IO108PDB1 (io), T22 IO105NDB1 (io), U19 GDA0/IO113NDB1 (io), U21 IO108NDB1 (io), U22 IO109PDB1 (io), V22 IO109NDB1 (io)
part C pins: AA4 IO181RSB2 (io), AA5 IO178RSB2 (io), AA6 IO175RSB2 (io), AA7 IO169RSB2 (io), AA8 IO166RSB2 (io), AA9 IO160RSB2 (io), AA10 IO152RSB2 (io), AA11 IO146RSB2 (io), AA12 IO139RSB2 (io), AA13 IO133RSB2 (io), AA16 IO122RSB2 (io), AA17 IO119RSB2 (io), AA18 IO117RSB2 (io), AB4 IO180RSB2 (io), AB5 IO176RSB2 (io), AB6 IO173RSB2 (io), AB7 IO167RSB2 (io), AB8 IO162RSB2 (io), AB9 IO156RSB2 (io), AB10 IO150RSB2 (io), AB11 IO145RSB2 (io), AB12 IO144RSB2 (io), AB13 IO132RSB2 (io), AB14 IO127RSB2 (io), AB15 IO126RSB2 (io), AB16 IO123RSB2 (io), AB17 IO121RSB2 (io), AB18 IO118RSB2 (io), R11 IO147RSB2 (io), R12 IO136RSB2 (io), T9 GEA2/IO187RSB2 (io), T10 IO161RSB2 (io), T11 IO155RSB2 (io), T12 IO141RSB2 (io), T13 IO129RSB2 (io), T14 IO124RSB2 (io), U7 IO179RSB2 (io), U8 IO171RSB2 (io), U9 IO165RSB2 (io), U10 IO159RSB2 (io), U11 IO151RSB2 (io), U12 IO137RSB2 (io), U13 IO134RSB2 (io), U14 IO128RSB2 (io), V6 IO184RSB2 (io), V7 GEC2/IO185RSB2 (io), V8 IO168RSB2 (io), V9 IO163RSB2 (io), V10 IO157RSB2 (io), V11 IO149RSB2 (io), V12 IO143RSB2 (io), V13 IO138RSB2 (io), V14 IO131RSB2 (io), V15 IO125RSB2 (io), V16 GDB2/IO115RSB2 (io), W5 IO183RSB2 (io), W6 FF/GEB2/IO186RSB2 (io), W7 IO172RSB2 (io), W8 IO170RSB2 (io), W9 IO164RSB2 (io), W10 IO158RSB2 (io), W11 IO153RSB2 (io), W12 IO142RSB2 (io), W13 IO135RSB2 (io), W14 IO130RSB2 (io), W15 GDC2/IO116RSB2 (io), W16 IO120RSB2 (io), W17 GDA2/IO114RSB2 (io), Y4 IO182RSB2 (io), Y6 IO177RSB2 (io), Y7 IO174RSB2 (io), Y10 IO154RSB2 (io), Y11 IO148RSB2 (io), Y12 IO140RSB2 (io)
part D pins: C2 IO220PDB3 (io), D1 IO219PDB3 (io), D2 IO220NDB3 (io), E1 IO219NDB3 (io), E4 GAB2/IO224PDB3 (io), E5 GAA2/IO225PDB3 (io), F2 IO215PDB3 (io), F3 IO215NDB3 (io), F4 IO224NDB3 (io), F5 IO225NDB3 (io), G1 IO214NDB3 (io), G2 IO214PDB3 (io), G4 IO222NDB3 (io), G5 IO222PDB3 (io), G6 GAC2/IO223PDB3 (io), G7 IO223NDB3 (io), H4 IO217PDB3 (io), H5 IO218PDB3 (io), H6 IO221NDB3 (io), H7 IO221PDB3 (io), J1 IO212NDB3 (io), J2 IO212PDB3 (io), J4 IO217NDB3 (io), J5 IO218NDB3 (io), J6 IO216PDB3 (io), J7 IO216NDB3 (io), K1 IO211PDB3 (io), K2 IO211NDB3 (io), K4 IO210PPB3 (io), K5 IO213NDB3 (io), K6 IO213PDB3 (io), K7 GFC1/IO209PPB3 (io), L2 IO200PDB3 (io), L3 IO210NPB3 (io), L4 GFB0/IO208NPB3 (io), L5 GFA0/IO207NDB3 (io), L6 GFB1/IO208PPB3 (io), L8 GFC0/IO209NPB3 (io), M2 IO200NDB3 (io), M3 IO206NDB3 (io), M4 GFA2/IO206PDB3 (io), M5 GFA1/IO207PDB3 (io), M7 IO205NDB3 (io), M8 GFB2/IO205PDB3 (io), N1 IO201NDB3 (io), N2 IO201PDB3 (io), N4 GFC2/IO204PDB3 (io), N5 IO204NDB3 (io), N6 IO203NDB3 (io), N7 IO203PDB3 (io), P2 IO199PDB3 (io), P3 IO199NDB3 (io), P4 IO202NDB3 (io), P5 IO202PDB3 (io), P6 IO196PPB3 (io), P7 IO193PPB3 (io), R2 IO197PPB3 (io), R4 IO197NPB3 (io), R5 IO196NPB3 (io), R6 IO193NPB3 (io), R7 GEC0/IO190NPB3 (io), T1 IO198PDB3 (io), T2 IO198NDB3 (io), T4 IO194PPB3 (io), T5 IO192PPB3 (io), T6 GEC1/IO190PPB3 (io), T7 IO192NPB3 (io), U1 IO195PDB3 (io), U2 IO195NDB3 (io), U3 IO194NPB3 (io), U4 GEB1/IO189PDB3 (io), U5 GEB0/IO189NDB3 (io), V4 GEA1/IO188PDB3 (io), V5 GEA0/IO188NDB3 (io), W2 IO191PDB3 (io), Y2 IO191NDB3 (io)
part E pins: U16 TCK (in), U18 ~{TRST} (in), V17 TDI (in), V19 TDO (out), W18 TMS (in)
part F pins: A3 VCCIB0 (power), A20 VCCIB0 (power), AA2 VCCIB3 (power), AA21 VCCIB1 (power), AB3 VCCIB2 (power), AB20 VCCIB2 (power), B2 VCCIB3 (power), B21 VCCIB1 (power), C1 VCCIB3 (power), C8 VCC (power), C9 VCC (power), C14 VCC (power), C15 VCC (power), C22 VCCIB1 (power), F6 VMV3 (power), F17 VMV0 (power), H3 VCC (power), H8 VMV0 (power), H9 VCCIB0 (power), H10 VCCIB0 (power), H13 VCCIB0 (power), H14 VCCIB0 (power), H15 VMV1 (power), H20 VCC (power), J8 VCCIB3 (power), J10 VCC (power), J11 VCC (power), J12 VCC (power), J13 VCC (power), J15 VCCIB1 (power), K8 VCCIB3 (power), K9 VCC (power), K14 VCC (power), K15 VCCIB1 (power), L9 VCC (power), L14 VCC (power), M9 VCC (power), M14 VCC (power), N8 VCCIB3 (power), N9 VCC (power), N14 VCC (power), N15 VCCIB1 (power), P8 VCCIB3 (power), P10 VCC (power), P11 VCC (power), P12 VCC (power), P13 VCC (power), P15 VCCIB1 (power), R3 VCC (power), R8 VMV3 (power), R9 VCCIB2 (power), R10 VCCIB2 (power), R13 VCCIB2 (power), R14 VCCIB2 (power), R15 VMV2 (power), R20 VCC (power), T17 VJTAG (power), U6 VMV2 (power), U15 VMV1 (power), U17 VPUMP (power), Y1 VCCIB3 (power), Y8 VCC (power), Y9 VCC (power), Y14 VCC (power), Y15 VCC (power), Y22 VCCIB1 (power)
part G pins: A1 GND (power), A2 GND (power), A21 GND (power), A22 GND (power), AA1 GND (power), AA22 GND (power), AB1 GND (power), AB2 GND (power), AB21 GND (power), AB22 GND (power), B1 GND (power), B22 GND (power), C5 GND (power), C18 GND (power), D4 GND (power), D19 GND (power), E3 GND (power), E6 GNDQ (power), E20 GND (power), G8 GNDQ (power), G15 GNDQ (power), J9 GND (power), J14 GND (power), K10 GND (power), K11 GND (power), K12 GND (power), K13 GND (power), L10 GND (power), L11 GND (power), L12 GND (power), L13 GND (power), M10 GND (power), M11 GND (power), M12 GND (power), M13 GND (power), N10 GND (power), N11 GND (power), N12 GND (power), N13 GND (power), P9 GND (power), P14 GND (power), T8 GNDQ (power), T15 GNDQ (power), V3 GND (power), V18 GNDQ (power), V20 GND (power), W4 GND (power), W19 GND (power), Y5 GND (power), Y18 GND (power)
part H pins: L7 VCOMPLF (power), M6 VCCPLF (power)
part I pins: A19 NC, AA3 NC, AA14 NC, AA15 NC, AA19 NC, AA20 NC, AB19 NC, B3 NC, B19 NC, B20 NC, C3 NC, C4 NC, C13 NC, C16 NC, C17 NC, C19 NC, C20 NC, C21 NC, D3 NC, D20 NC, D21 NC, D22 NC, E2 NC, E21 NC, F1 NC, F21 NC, G3 NC, G22 NC, H1 NC, H2 NC, H21 NC, H22 NC, J3 NC, J20 NC, K3 NC, L1 NC, M1 NC, M22 NC, N3 NC, N20 NC, P1 NC, P20 NC, R1 NC, T3 NC, T20 NC, U20 NC, V1 NC, V2 NC, V21 NC, W1 NC, W3 NC, W20 NC, W21 NC, W22 NC, Y3 NC, Y13 NC, Y16 NC, Y17 NC, Y19 NC, Y20 NC, Y21 NC
part A text: BANK 0
part B text: BANK 1
part C text: BANK 2
part D text: BANK 3

## AGL1000V2-FG144
designator U?
IGLOO Low-Power Flash 1.2/1.5V FPGA with Flash*Freeze, 97 User IOs, 1M System Gates, 144Kbits RAM, 1Kbit Flash ROM, 1 PLL, 144-Pin FBGA, Commercial Grade; Published: 14-Mar-2008; LatestRevisionDate: 11-Dec-2009; LatestRevisionNote: Updated to datasheet version 2.0 Nov-2009.; DatasheetVersion: v2.0, Nov-2009; PackageVersion: ver11.2, Nov-2009; PackageReference: FG144; Publisher: Altium Limited; PackageDescription: 144-Ball Fine Pitch Plastic Ball Grid Array (FG144); Code_JEDEC: MO-192-DAD-1; ComponentLink1Description: IGLOO Datasheet; ComponentLink1URL: http://www.actel.com/documents/IGLOO_DS.pdf; ComponentLink2Description: Package Mechanical Drawings; ComponentLink2URL: http://www.actel.com/documents/PckgMechDrwngs.pdf; ComponentLink3Description: IGLOO Documents; ComponentLink3URL: http://www.actel.com/products/igloo/docs.aspx; ComponentLink4Description: Actel.com Home; ComponentLink4URL: http://www.actel.com/
footprint FG144 (BGA, 144-Leads, Body 13x13mm, Pitch 1mm)
signal-integrity model AGL1000-FG144 (IGLOO)
part A pins: A3 GAB0/IO02RSB0 (io), A4 GAB1/IO03RSB0 (io), A5 IO10RSB0 (io), A7 IO44RSB0 (io), A9 IO69RSB0 (io), A10 GBA0/IO76RSB0 (io), A11 GBA1/IO77RSB0 (io), B3 GAA0/IO00RSB0 (io), B4 GAA1/IO01RSB0 (io), B5 IO13RSB0 (io), B6 IO26RSB0 (io), B7 IO35RSB0 (io), B8 IO60RSB0 (io), B9 GBB0/IO74RSB0 (io), B10 GBB1/IO75RSB0 (io), C5 IO16RSB0 (io), C6 IO29RSB0 (io), C7 IO32RSB0 (io), C8 IO63RSB0 (io), C9 IO66RSB0 (io), D5 GAC0/IO04RSB0 (io), D6 GAC1/IO05RSB0 (io), D7 GBC0/IO72RSB0 (io), D8 GBC1/IO73RSB0 (io)
part B pins: C10 GBA2/IO78PDB1 (io), C11 IO78NDB1 (io), C12 GBC2/IO80PPB1 (io), D9 GBB2/IO79PDB1 (io), D10 IO79NDB1 (io), D11 IO80NPB1 (io), D12 GCB1/IO92PPB1 (io), E8 GCC1/IO91PDB1 (io), E11 GCA0/IO93NDB1 (io), E12 IO94NDB1 (io), F8 GCC0/IO91NDB1 (io), F9 GCB0/IO92NPB1 (io), F11 GCA1/IO93PDB1 (io), F12 GCA2/IO94PDB1 (io), G8 GDC1/IO111PPB1 (io), G9 IO96NDB1 (io), G10 GCC2/IO96PDB1 (io), G11 IO95NDB1 (io), G12 GCB2/IO95PDB1 (io), H6 IO105PDB1 (io), H7 IO105NDB1 (io), H9 GDC0/IO111NPB1 (io), H11 IO101PSB1 (io), J11 GDA1/IO113PDB1 (io), J12 GDB1/IO112PDB1 (io), K11 GDA0/IO113NDB1 (io), K12 GDB0/IO112NDB1 (io)
part C pins: H8 GDB2/IO115RSB2 (io), J5 IO160RSB2 (io), J6 IO157RSB2 (io), J9 GDA2/IO114RSB2 (io), K4 GEA2/IO187RSB2 (io), K5 IO169RSB2 (io), K6 IO152RSB2 (io), K8 IO117RSB2 (io), K9 GDC2/IO116RSB2 (io), L3 FF/GEB2/IO186RSB2 (io), L4 IO172RSB2 (io), L6 IO153RSB2 (io), L7 IO144RSB2 (io), L8 IO140RSB2 (io), M2 GEC2/IO185RSB2 (io), M3 IO173RSB2 (io), M4 IO168RSB2 (io), M5 IO161RSB2 (io), M6 IO156RSB2 (io), M7 IO145RSB2 (io), M8 IO141RSB2 (io)
part D pins: B1 GAB2/IO224PDB3 (io), C1 IO224NDB3 (io), C2 GFA2/IO206PPB3 (io), C3 GAC2/IO223PDB3 (io), D1 IO213PDB3 (io), D2 IO213NDB3 (io), D3 IO223NDB3 (io), D4 GAA2/IO225PPB3 (io), E2 GFC0/IO209NDB3 (io), E3 GFC1/IO209PDB3 (io), E5 IO225NPB3 (io), F1 GFB0/IO208NPB3 (io), F3 GFB1/IO208PPB3 (io), F4 IO206NPB3 (io), G1 GFA1/IO207PPB3 (io), G4 GFA0/IO207NPB3 (io), H2 GFB2/IO205PDB3 (io), H3 GFC2/IO204PSB3 (io), H4 GEC1/IO190PDB3 (io), J1 GEB1/IO189PDB3 (io), J2 IO205NDB3 (io), J4 GEC0/IO190NDB3 (io), K1 GEB0/IO189NDB3 (io), K2 GEA1/IO188PDB3 (io), K3 GEA0/IO188NDB3 (io)
part E pins: J8 TCK (in), J10 TDO (out), L9 TMS (in), L12 ~{TRST} (in), M9 TDI (in)
part F pins: A2 VMV0 (power), A8 VCC (power), B12 VMV1 (power), C4 VCC (power), E1 VCC (power), E4 VCCIB3 (power), E6 VCCIB0 (power), E7 VCCIB0 (power), E9 VCCIB1 (power), E10 VCC (power), H1 VCC (power), H5 VCC (power), H10 VCCIB1 (power), H12 VCC (power), J3 VCCIB3 (power), J7 VCC (power), L2 VMV3 (power), L5 VCCIB2 (power), L10 VJTAG (power), L11 VMV2 (power), M10 VCCIB2 (power), M11 VPUMP (power)
part G pins: A1 GNDQ (power), A6 GND (power), A12 GNDQ (power), B2 GND (power), B11 GND (power), F5 GND (power), F6 GND (power), F7 GND (power), F10 GND (power), G2 GND (power), G5 GND (power), G6 GND (power), G7 GND (power), K7 GND (power), K10 GND (power), L1 GND (power), M1 GNDQ (power), M12 GNDQ (power)
part H pins: F2 VCOMPLF (power), G3 VCCPLF (power)
part A text: BANK 0
part B text: BANK 1
part C text: BANK 2
part D text: BANK 3

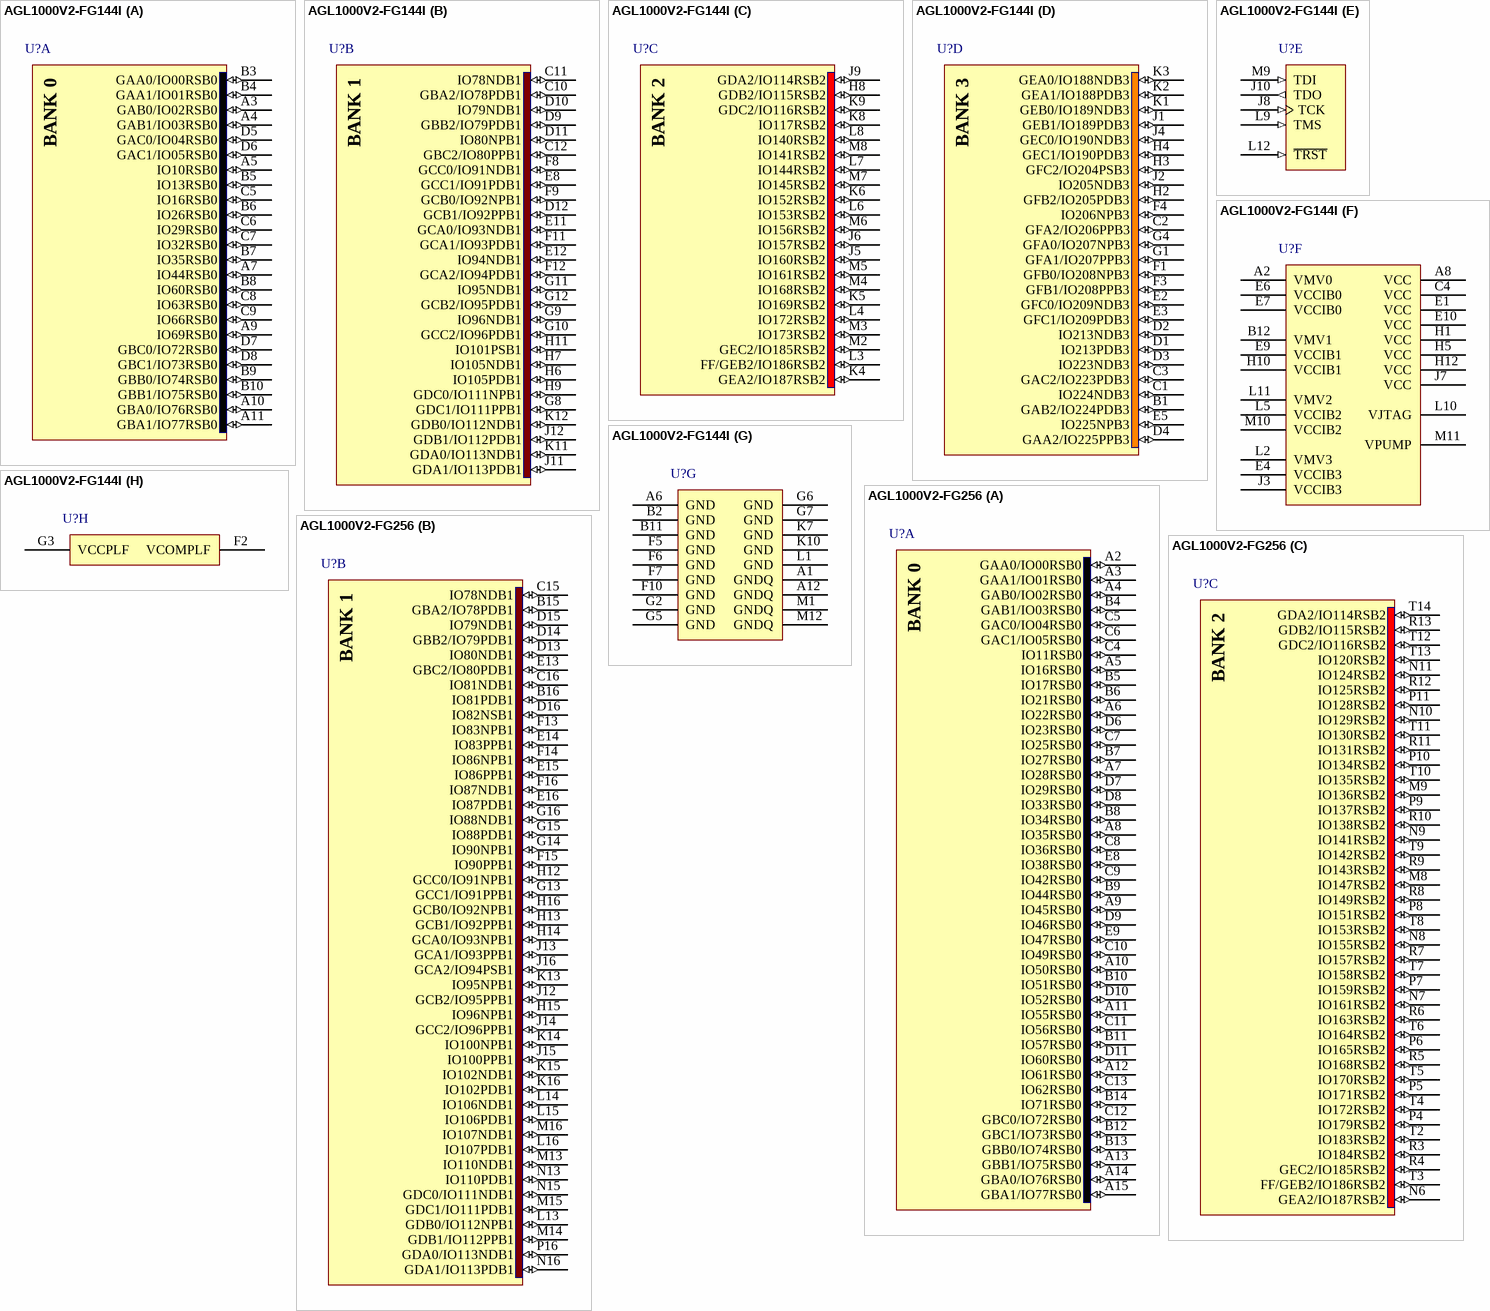
[diagram p139: symbols AGL1000V2-FG144I to AGL1000V2-FG256]

## AGL1000V2-FG144I
designator U?
IGLOO Low-Power Flash 1.2/1.5V FPGA with Flash*Freeze, 97 User IOs, 1M System Gates, 144Kbits RAM, 1Kbit Flash ROM, 1 PLL, 144-Pin FBGA, Industrial Grade; Published: 14-Mar-2008; LatestRevisionDate: 11-Dec-2009; LatestRevisionNote: Updated to datasheet version 2.0 Nov-2009.; DatasheetVersion: v2.0, Nov-2009; PackageVersion: ver11.2, Nov-2009; PackageReference: FG144; Publisher: Altium Limited; PackageDescription: 144-Ball Fine Pitch Plastic Ball Grid Array (FG144); Code_JEDEC: MO-192-DAD-1; ComponentLink1Description: IGLOO Datasheet; ComponentLink1URL: http://www.actel.com/documents/IGLOO_DS.pdf; ComponentLink2Description: Package Mechanical Drawings; ComponentLink2URL: http://www.actel.com/documents/PckgMechDrwngs.pdf; ComponentLink3Description: IGLOO Documents; ComponentLink3URL: http://www.actel.com/products/igloo/docs.aspx; ComponentLink4Description: Actel.com Home; ComponentLink4URL: http://www.actel.com/
footprint FG144 (BGA, 144-Leads, Body 13x13mm, Pitch 1mm)
signal-integrity model AGL1000-FG144 (IGLOO)
part A pins: A3 GAB0/IO02RSB0 (io), A4 GAB1/IO03RSB0 (io), A5 IO10RSB0 (io), A7 IO44RSB0 (io), A9 IO69RSB0 (io), A10 GBA0/IO76RSB0 (io), A11 GBA1/IO77RSB0 (io), B3 GAA0/IO00RSB0 (io), B4 GAA1/IO01RSB0 (io), B5 IO13RSB0 (io), B6 IO26RSB0 (io), B7 IO35RSB0 (io), B8 IO60RSB0 (io), B9 GBB0/IO74RSB0 (io), B10 GBB1/IO75RSB0 (io), C5 IO16RSB0 (io), C6 IO29RSB0 (io), C7 IO32RSB0 (io), C8 IO63RSB0 (io), C9 IO66RSB0 (io), D5 GAC0/IO04RSB0 (io), D6 GAC1/IO05RSB0 (io), D7 GBC0/IO72RSB0 (io), D8 GBC1/IO73RSB0 (io)
part B pins: C10 GBA2/IO78PDB1 (io), C11 IO78NDB1 (io), C12 GBC2/IO80PPB1 (io), D9 GBB2/IO79PDB1 (io), D10 IO79NDB1 (io), D11 IO80NPB1 (io), D12 GCB1/IO92PPB1 (io), E8 GCC1/IO91PDB1 (io), E11 GCA0/IO93NDB1 (io), E12 IO94NDB1 (io), F8 GCC0/IO91NDB1 (io), F9 GCB0/IO92NPB1 (io), F11 GCA1/IO93PDB1 (io), F12 GCA2/IO94PDB1 (io), G8 GDC1/IO111PPB1 (io), G9 IO96NDB1 (io), G10 GCC2/IO96PDB1 (io), G11 IO95NDB1 (io), G12 GCB2/IO95PDB1 (io), H6 IO105PDB1 (io), H7 IO105NDB1 (io), H9 GDC0/IO111NPB1 (io), H11 IO101PSB1 (io), J11 GDA1/IO113PDB1 (io), J12 GDB1/IO112PDB1 (io), K11 GDA0/IO113NDB1 (io), K12 GDB0/IO112NDB1 (io)
part C pins: H8 GDB2/IO115RSB2 (io), J5 IO160RSB2 (io), J6 IO157RSB2 (io), J9 GDA2/IO114RSB2 (io), K4 GEA2/IO187RSB2 (io), K5 IO169RSB2 (io), K6 IO152RSB2 (io), K8 IO117RSB2 (io), K9 GDC2/IO116RSB2 (io), L3 FF/GEB2/IO186RSB2 (io), L4 IO172RSB2 (io), L6 IO153RSB2 (io), L7 IO144RSB2 (io), L8 IO140RSB2 (io), M2 GEC2/IO185RSB2 (io), M3 IO173RSB2 (io), M4 IO168RSB2 (io), M5 IO161RSB2 (io), M6 IO156RSB2 (io), M7 IO145RSB2 (io), M8 IO141RSB2 (io)
part D pins: B1 GAB2/IO224PDB3 (io), C1 IO224NDB3 (io), C2 GFA2/IO206PPB3 (io), C3 GAC2/IO223PDB3 (io), D1 IO213PDB3 (io), D2 IO213NDB3 (io), D3 IO223NDB3 (io), D4 GAA2/IO225PPB3 (io), E2 GFC0/IO209NDB3 (io), E3 GFC1/IO209PDB3 (io), E5 IO225NPB3 (io), F1 GFB0/IO208NPB3 (io), F3 GFB1/IO208PPB3 (io), F4 IO206NPB3 (io), G1 GFA1/IO207PPB3 (io), G4 GFA0/IO207NPB3 (io), H2 GFB2/IO205PDB3 (io), H3 GFC2/IO204PSB3 (io), H4 GEC1/IO190PDB3 (io), J1 GEB1/IO189PDB3 (io), J2 IO205NDB3 (io), J4 GEC0/IO190NDB3 (io), K1 GEB0/IO189NDB3 (io), K2 GEA1/IO188PDB3 (io), K3 GEA0/IO188NDB3 (io)
part E pins: J8 TCK (in), J10 TDO (out), L9 TMS (in), L12 ~{TRST} (in), M9 TDI (in)
part F pins: A2 VMV0 (power), A8 VCC (power), B12 VMV1 (power), C4 VCC (power), E1 VCC (power), E4 VCCIB3 (power), E6 VCCIB0 (power), E7 VCCIB0 (power), E9 VCCIB1 (power), E10 VCC (power), H1 VCC (power), H5 VCC (power), H10 VCCIB1 (power), H12 VCC (power), J3 VCCIB3 (power), J7 VCC (power), L2 VMV3 (power), L5 VCCIB2 (power), L10 VJTAG (power), L11 VMV2 (power), M10 VCCIB2 (power), M11 VPUMP (power)
part G pins: A1 GNDQ (power), A6 GND (power), A12 GNDQ (power), B2 GND (power), B11 GND (power), F5 GND (power), F6 GND (power), F7 GND (power), F10 GND (power), G2 GND (power), G5 GND (power), G6 GND (power), G7 GND (power), K7 GND (power), K10 GND (power), L1 GND (power), M1 GNDQ (power), M12 GNDQ (power)
part H pins: F2 VCOMPLF (power), G3 VCCPLF (power)
part A text: BANK 0
part B text: BANK 1
part C text: BANK 2
part D text: BANK 3

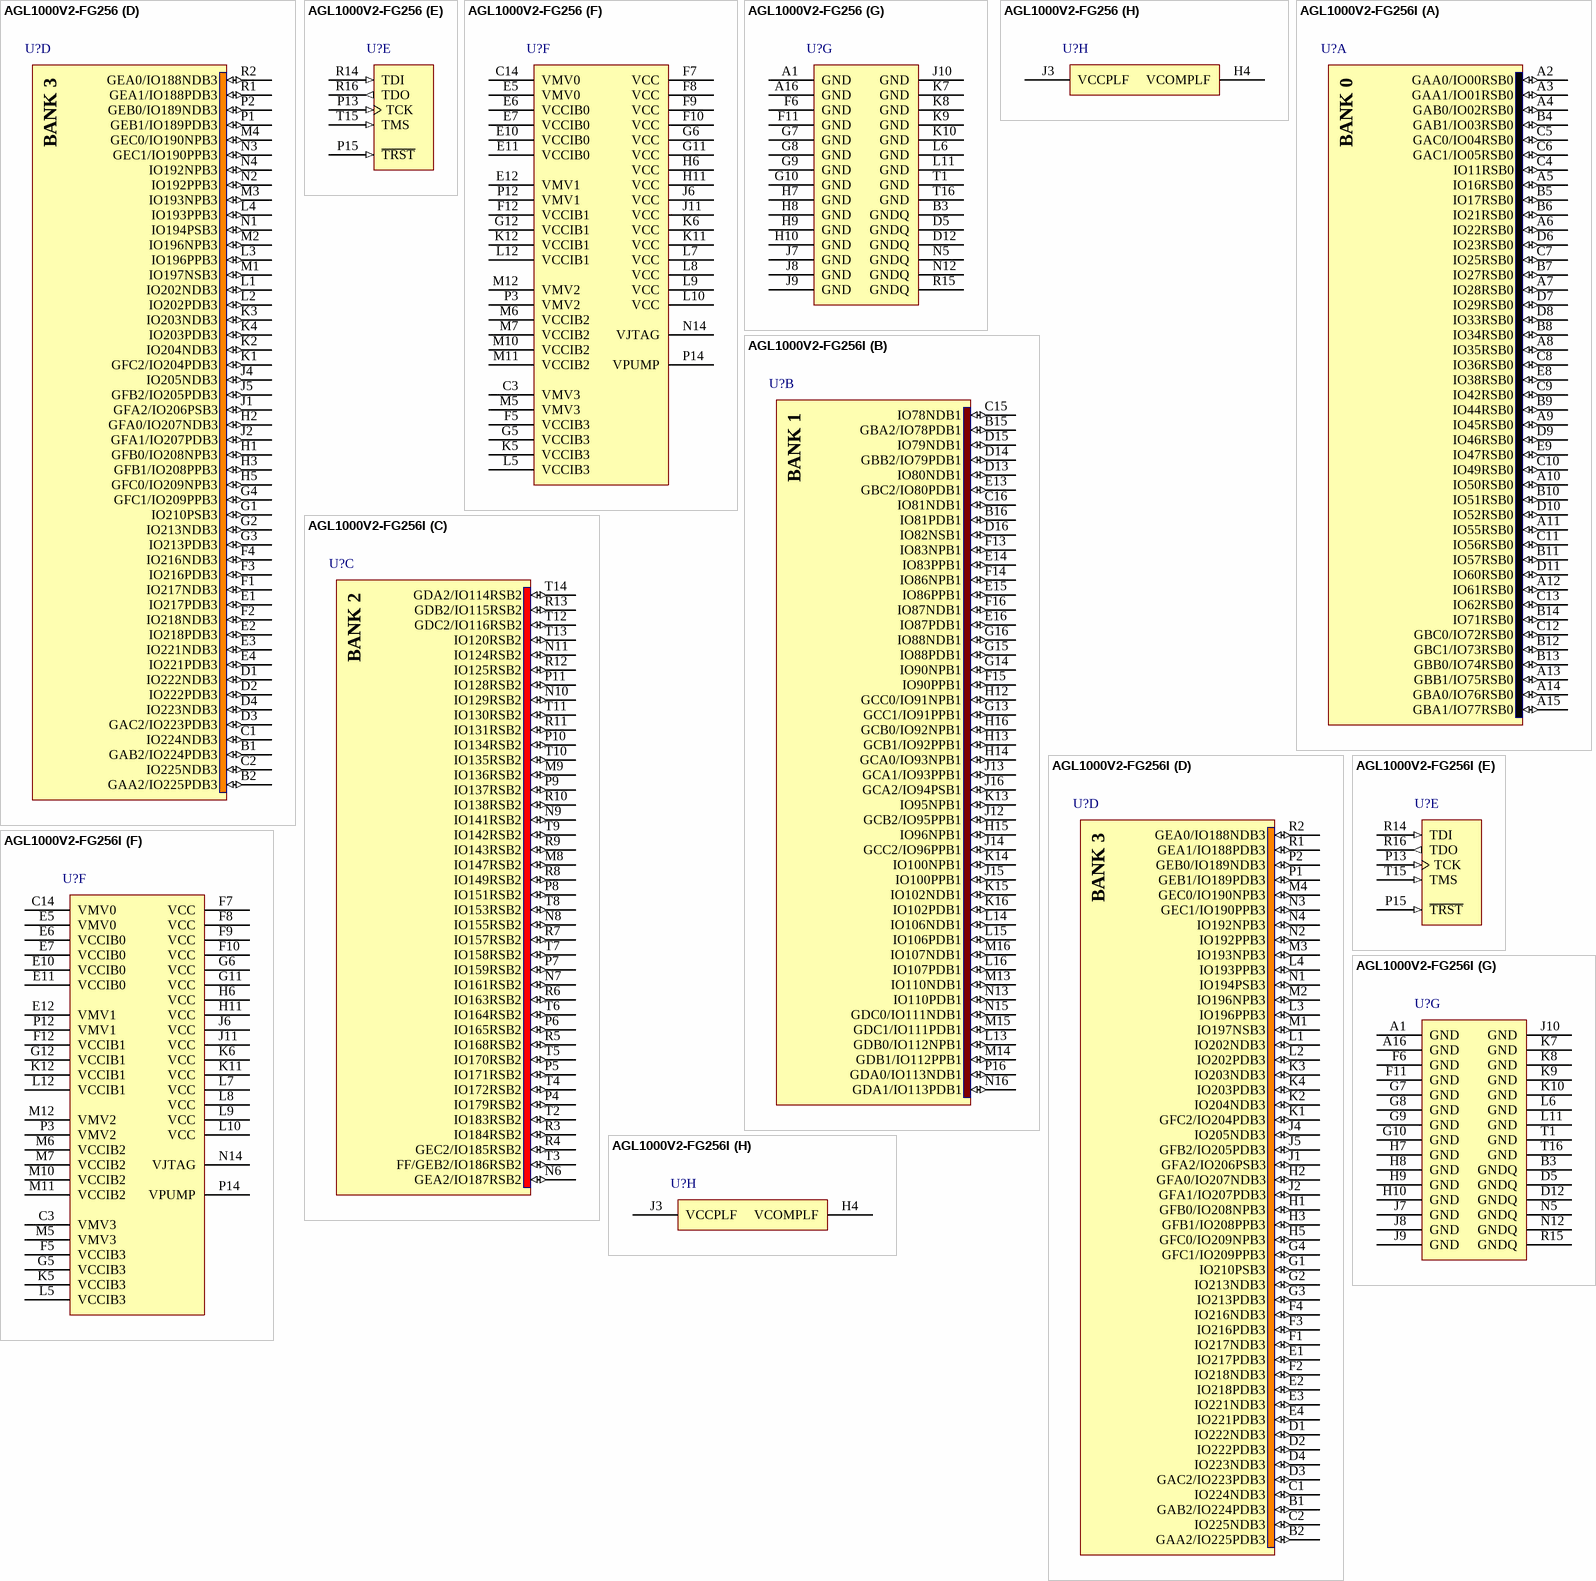
[diagram p140: symbols AGL1000V2-FG256 to AGL1000V2-FG256I]

## AGL1000V2-FG256
designator U?
IGLOO Low-Power Flash 1.2/1.5V FPGA with Flash*Freeze, 177 User IOs, 1M System Gates, 144Kbits RAM, 1Kbit Flash ROM, 1 PLL, 256-Pin FBGA, Commercial Grade; Published: 14-Mar-2008; LatestRevisionDate: 11-Dec-2009; LatestRevisionNote: Updated to datasheet version 2.0 Nov-2009.; DatasheetVersion: v2.0, Nov-2009; PackageVersion: ver11.2, Nov-2009; PackageReference: FG256; Publisher: Altium Limited; PackageDescription: 256-Ball Fine Pitch Plastic Ball Grid Array 1.00 mm Pitch (FG256); Code_JEDEC: MO-192-DAF-1; ComponentLink1Description: IGLOO Datasheet; ComponentLink1URL: http://www.actel.com/documents/IGLOO_DS.pdf; ComponentLink2Description: Package Mechanical Drawings; ComponentLink2URL: http://www.actel.com/documents/PckgMechDrwngs.pdf; ComponentLink3Description: IGLOO Documents; ComponentLink3URL: http://www.actel.com/products/igloo/docs.aspx; ComponentLink4Description: Actel.com Home; ComponentLink4URL: http://www.actel.com/
footprint FG256 (BGA, 256-Leads, Body 17x17mm, Pitch 1mm)
signal-integrity model AGL1000-FG256 (IGLOO)
part A pins: A2 GAA0/IO00RSB0 (io), A3 GAA1/IO01RSB0 (io), A4 GAB0/IO02RSB0 (io), A5 IO16RSB0 (io), A6 IO22RSB0 (io), A7 IO28RSB0 (io), A8 IO35RSB0 (io), A9 IO45RSB0 (io), A10 IO50RSB0 (io), A11 IO55RSB0 (io), A12 IO61RSB0 (io), A13 GBB1/IO75RSB0 (io), A14 GBA0/IO76RSB0 (io), A15 GBA1/IO77RSB0 (io), B4 GAB1/IO03RSB0 (io), B5 IO17RSB0 (io), B6 IO21RSB0 (io), B7 IO27RSB0 (io), B8 IO34RSB0 (io), B9 IO44RSB0 (io), B10 IO51RSB0 (io), B11 IO57RSB0 (io), B12 GBC1/IO73RSB0 (io), B13 GBB0/IO74RSB0 (io), B14 IO71RSB0 (io), C4 IO11RSB0 (io), C5 GAC0/IO04RSB0 (io), C6 GAC1/IO05RSB0 (io), C7 IO25RSB0 (io), C8 IO36RSB0 (io), C9 IO42RSB0 (io), C10 IO49RSB0 (io), C11 IO56RSB0 (io), C12 GBC0/IO72RSB0 (io), C13 IO62RSB0 (io), D6 IO23RSB0 (io), D7 IO29RSB0 (io), D8 IO33RSB0 (io), D9 IO46RSB0 (io), D10 IO52RSB0 (io), D11 IO60RSB0 (io), E8 IO38RSB0 (io), E9 IO47RSB0 (io)
part B pins: B15 GBA2/IO78PDB1 (io), B16 IO81PDB1 (io), C15 IO78NDB1 (io), C16 IO81NDB1 (io), D13 IO80NDB1 (io), D14 GBB2/IO79PDB1 (io), D15 IO79NDB1 (io), D16 IO82NSB1 (io), E13 GBC2/IO80PDB1 (io), E14 IO83PPB1 (io), E15 IO86PPB1 (io), E16 IO87PDB1 (io), F13 IO83NPB1 (io), F14 IO86NPB1 (io), F15 IO90PPB1 (io), F16 IO87NDB1 (io), G13 GCC1/IO91PPB1 (io), G14 IO90NPB1 (io), G15 IO88PDB1 (io), G16 IO88NDB1 (io), H12 GCC0/IO91NPB1 (io), H13 GCB1/IO92PPB1 (io), H14 GCA0/IO93NPB1 (io), H15 IO96NPB1 (io), H16 GCB0/IO92NPB1 (io), J12 GCB2/IO95PPB1 (io), J13 GCA1/IO93PPB1 (io), J14 GCC2/IO96PPB1 (io), J15 IO100PPB1 (io), J16 GCA2/IO94PSB1 (io), K13 IO95NPB1 (io), K14 IO100NPB1 (io), K15 IO102NDB1 (io), K16 IO102PDB1 (io), L13 GDB0/IO112NPB1 (io), L14 IO106NDB1 (io), L15 IO106PDB1 (io), L16 IO107PDB1 (io), M13 IO110NDB1 (io), M14 GDB1/IO112PPB1 (io), M15 GDC1/IO111PDB1 (io), M16 IO107NDB1 (io), N13 IO110PDB1 (io), N15 GDC0/IO111NDB1 (io), N16 GDA1/IO113PDB1 (io), P16 GDA0/IO113NDB1 (io)
part C pins: M8 IO147RSB2 (io), M9 IO136RSB2 (io), N6 GEA2/IO187RSB2 (io), N7 IO161RSB2 (io), N8 IO155RSB2 (io), N9 IO141RSB2 (io), N10 IO129RSB2 (io), N11 IO124RSB2 (io), P4 IO179RSB2 (io), P5 IO171RSB2 (io), P6 IO165RSB2 (io), P7 IO159RSB2 (io), P8 IO151RSB2 (io), P9 IO137RSB2 (io), P10 IO134RSB2 (io), P11 IO128RSB2 (io), R3 IO184RSB2 (io), R4 GEC2/IO185RSB2 (io), R5 IO168RSB2 (io), R6 IO163RSB2 (io), R7 IO157RSB2 (io), R8 IO149RSB2 (io), R9 IO143RSB2 (io), R10 IO138RSB2 (io), R11 IO131RSB2 (io), R12 IO125RSB2 (io), R13 GDB2/IO115RSB2 (io), T2 IO183RSB2 (io), T3 FF/GEB2/IO186RSB2 (io), T4 IO172RSB2 (io), T5 IO170RSB2 (io), T6 IO164RSB2 (io), T7 IO158RSB2 (io), T8 IO153RSB2 (io), T9 IO142RSB2 (io), T10 IO135RSB2 (io), T11 IO130RSB2 (io), T12 GDC2/IO116RSB2 (io), T13 IO120RSB2 (io), T14 GDA2/IO114RSB2 (io)
part D pins: B1 GAB2/IO224PDB3 (io), B2 GAA2/IO225PDB3 (io), C1 IO224NDB3 (io), C2 IO225NDB3 (io), D1 IO222NDB3 (io), D2 IO222PDB3 (io), D3 GAC2/IO223PDB3 (io), D4 IO223NDB3 (io), E1 IO217PDB3 (io), E2 IO218PDB3 (io), E3 IO221NDB3 (io), E4 IO221PDB3 (io), F1 IO217NDB3 (io), F2 IO218NDB3 (io), F3 IO216PDB3 (io), F4 IO216NDB3 (io), G1 IO210PSB3 (io), G2 IO213NDB3 (io), G3 IO213PDB3 (io), G4 GFC1/IO209PPB3 (io), H1 GFB0/IO208NPB3 (io), H2 GFA0/IO207NDB3 (io), H3 GFB1/IO208PPB3 (io), H5 GFC0/IO209NPB3 (io), J1 GFA2/IO206PSB3 (io), J2 GFA1/IO207PDB3 (io), J4 IO205NDB3 (io), J5 GFB2/IO205PDB3 (io), K1 GFC2/IO204PDB3 (io), K2 IO204NDB3 (io), K3 IO203NDB3 (io), K4 IO203PDB3 (io), L1 IO202NDB3 (io), L2 IO202PDB3 (io), L3 IO196PPB3 (io), L4 IO193PPB3 (io), M1 IO197NSB3 (io), M2 IO196NPB3 (io), M3 IO193NPB3 (io), M4 GEC0/IO190NPB3 (io), N1 IO194PSB3 (io), N2 IO192PPB3 (io), N3 GEC1/IO190PPB3 (io), N4 IO192NPB3 (io), P1 GEB1/IO189PDB3 (io), P2 GEB0/IO189NDB3 (io), R1 GEA1/IO188PDB3 (io), R2 GEA0/IO188NDB3 (io)
part E pins: P13 TCK (in), P15 ~{TRST} (in), R14 TDI (in), R16 TDO (out), T15 TMS (in)
part F pins: C3 VMV3 (power), C14 VMV0 (power), E5 VMV0 (power), E6 VCCIB0 (power), E7 VCCIB0 (power), E10 VCCIB0 (power), E11 VCCIB0 (power), E12 VMV1 (power), F5 VCCIB3 (power), F7 VCC (power), F8 VCC (power), F9 VCC (power), F10 VCC (power), F12 VCCIB1 (power), G5 VCCIB3 (power), G6 VCC (power), G11 VCC (power), G12 VCCIB1 (power), H6 VCC (power), H11 VCC (power), J6 VCC (power), J11 VCC (power), K5 VCCIB3 (power), K6 VCC (power), K11 VCC (power), K12 VCCIB1 (power), L5 VCCIB3 (power), L7 VCC (power), L8 VCC (power), L9 VCC (power), L10 VCC (power), L12 VCCIB1 (power), M5 VMV3 (power), M6 VCCIB2 (power), M7 VCCIB2 (power), M10 VCCIB2 (power), M11 VCCIB2 (power), M12 VMV2 (power), N14 VJTAG (power), P3 VMV2 (power), P12 VMV1 (power), P14 VPUMP (power)
part G pins: A1 GND (power), A16 GND (power), B3 GNDQ (power), D5 GNDQ (power), D12 GNDQ (power), F6 GND (power), F11 GND (power), G7 GND (power), G8 GND (power), G9 GND (power), G10 GND (power), H7 GND (power), H8 GND (power), H9 GND (power), H10 GND (power), J7 GND (power), J8 GND (power), J9 GND (power), J10 GND (power), K7 GND (power), K8 GND (power), K9 GND (power), K10 GND (power), L6 GND (power), L11 GND (power), N5 GNDQ (power), N12 GNDQ (power), R15 GNDQ (power), T1 GND (power), T16 GND (power)
part H pins: H4 VCOMPLF (power), J3 VCCPLF (power)
part A text: BANK 0
part B text: BANK 1
part C text: BANK 2
part D text: BANK 3